# Altium schematic symbol library J 集成块.SchLib: 438 symbols (part 1 of 2)
Pins are listed as number, name and electrical type; pins without a type are passive.

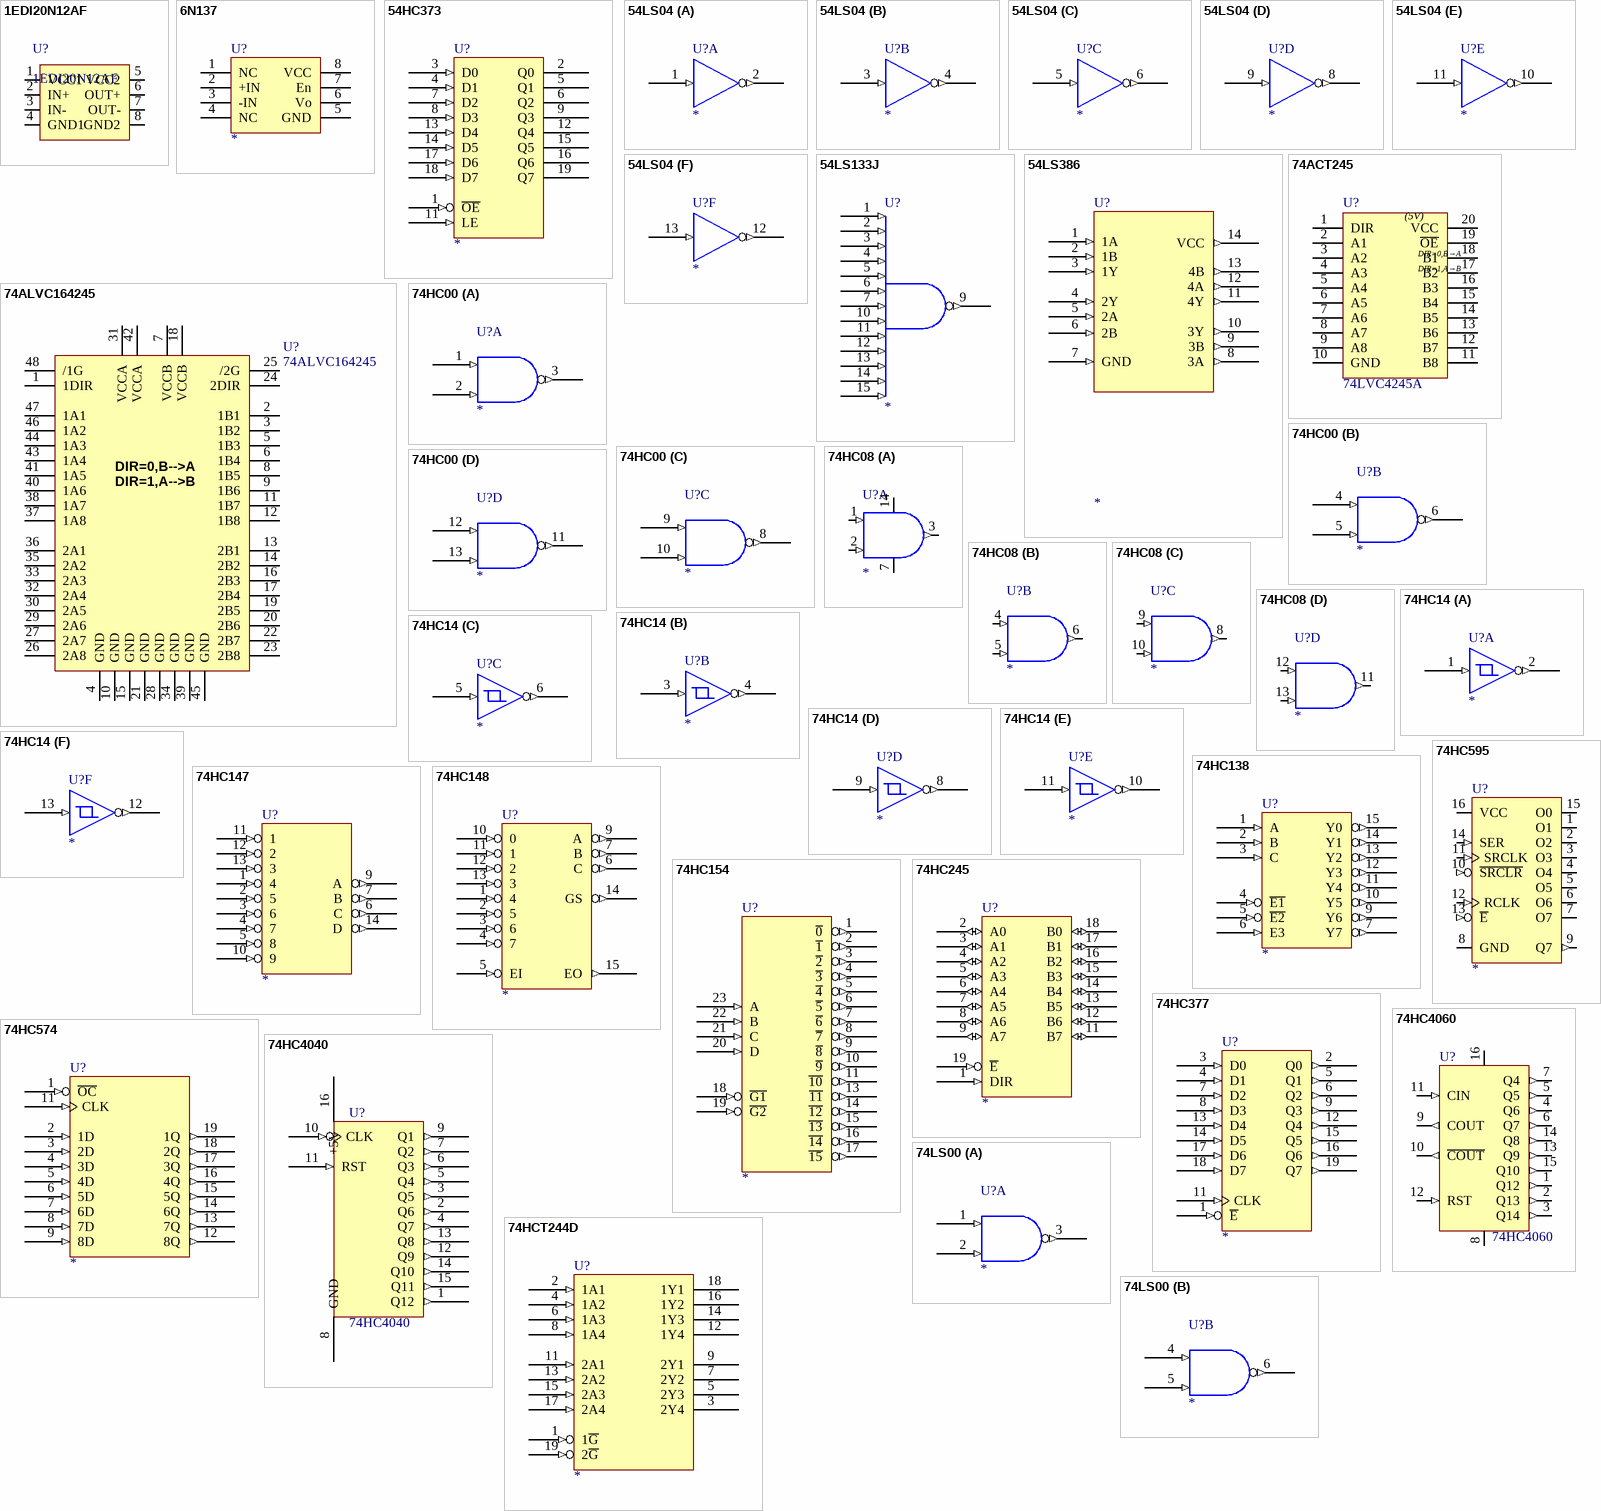
[diagram p0: symbols 1EDI20N12AF to 74LS00]

## 1EDI20N12AF
designator U?
pins: 1 VCC1, 2 IN+, 3 IN-, 4 GND1, 5 VCC2, 6 OUT+, 7 OUT-, 8 GND2

## 6N137
designator U?
高速光耦
pins: 1 NC, 2 +IN, 3 -IN, 4 NC, 5 GND, 6 Vo, 7 En, 8 VCC

## 54HC373
designator U?
pins: 1 ~{OE} (in), 2 Q0 (hiz), 3 D0 (in), 4 D1 (in), 5 Q1 (hiz), 6 Q2 (hiz), 7 D2 (in), 8 D3 (in), 9 Q3 (hiz), 10 GND (power) hidden to GND, 11 LE (in), 12 Q4 (hiz), 13 D4 (in), 14 D5 (in), 15 Q5 (hiz), 16 Q6 (hiz), 17 D6 (in), 18 D7 (in), 19 Q7 (hiz), 20 VCC (power) hidden to VCC

## 54LS04
designator U?
part A pins: 1 (in), 2 (out), 7 GND (power) hidden to GND, 14 VCC (power) hidden to VCC
part B pins: 3 (in), 4 (out), 7 GND (power) hidden to GND, 14 VCC (power) hidden to VCC
part C pins: 5 (in), 6 (out), 7 GND (power) hidden to GND, 14 VCC (power) hidden to VCC
part D pins: 7 GND (power) hidden to GND, 8 (out), 9 (in), 14 VCC (power) hidden to VCC
part E pins: 7 GND (power) hidden to GND, 10 (out), 11 (in), 14 VCC (power) hidden to VCC
part F pins: 7 GND (power) hidden to GND, 12 (out), 13 (in), 14 VCC (power) hidden to VCC

## 54LS133J
designator U?
pins: 1 (in), 2 (in), 3 (in), 4 (in), 5 (in), 6 (in), 7 (in), 8 GND (power) hidden to GND, 9 (out), 10 (in), 11 (in), 12 (in), 13 (in), 14 (in), 15 (in), 16 VCC (power) hidden to VCC

## 54LS386
designator U?
pins: 1 1A (in), 2 1B (in), 3 1Y (in), 4 2Y (in), 5 2A (in), 6 2B (in), 7 GND (in), 8 3A (out), 9 3B (out), 10 GND (power) hidden to GND, 10 3Y (out), 11 4Y (out), 12 4A (out), 13 4B (out), 14 VCC (out), 20 VCC (power) hidden to VCC

## 74ACT245
designator U?, comment 74LVC4245A
5V 三态
pins: 1 DIR, 2 A1, 3 A2, 4 A3, 5 A4, 6 A5, 7 A6, 8 A7, 9 A8, 10 GND, 11 B8, 12 B7, 13 B6, 14 B5, 15 B4, 16 B3, 17 B2, 18 B1, 19 ~{OE}, 20 VCC
text: (5V); DIR=0,B→A; DIR=1,A→B

## 74ALVC164245
designator U?
pins: 1 1DIR, 2 1B1, 3 1B2, 4 GND, 5 1B3, 6 1B4, 7 VCCB, 8 1B5, 9 1B6, 10 GND, 11 1B7, 12 1B8, 13 2B1, 14 2B2, 15 GND, 16 2B3, 17 2B4, 18 VCCB, 19 2B5, 20 2B6, 21 GND, 22 2B7, 23 2B8, 24 2DIR, 25 /2G, 26 2A8, 27 2A7, 28 GND, 29 2A6, 30 2A5, 31 VCCA, 32 2A4, 33 2A3, 34 GND, 35 2A2, 36 2A1, 37 1A8, 38 1A7, 39 GND, 40 1A6, 41 1A5, 42 VCCA, 43 1A4, 44 1A3, 45 GND, 46 1A2, 47 1A1, 48 /1G
text: DIR=0,B-->A; DIR=1,A-->B

## 74HC00
designator U?
part A pins: 1 (in), 2 (in), 3 (out), 7 GND (power) hidden to GND, 14 VCC (power) hidden to VCC
part B pins: 4 (in), 5 (in), 6 (out), 7 GND (power) hidden to GND, 14 VCC (power) hidden to VCC
part C pins: 7 GND (power) hidden to GND, 8 (out), 9 (in), 10 (in), 14 VCC (power) hidden to VCC
part D pins: 7 GND (power) hidden to GND, 11 (out), 12 (in), 13 (in), 14 VCC (power) hidden to VCC

## 74HC08
designator U?
part A pins: 1 (in), 2 (in), 3 (out), 7 GND (power), 14 VCC (power)
part B pins: 4 (in), 5 (in), 6 (out), 7 GND (power) hidden to GND, 14 VCC (power) hidden to VCC
part C pins: 7 GND (power) hidden to GND, 8 (out), 9 (in), 10 (in), 14 VCC (power) hidden to VCC
part D pins: 7 GND (power) hidden to GND, 11 (out), 12 (in), 13 (in), 14 VCC (power) hidden to VCC

## 74HC14
designator U?
part A pins: 1 (in), 2 (out), 7 GND (power) hidden to GND, 14 VCC (power) hidden to VCC
part B pins: 3 (in), 4 (out), 7 GND (power) hidden to GND, 14 VCC (power) hidden to VCC
part C pins: 5 (in), 6 (out), 7 GND (power) hidden to GND, 14 VCC (power) hidden to VCC
part D pins: 7 GND (power) hidden to GND, 8 (out), 9 (in), 14 VCC (power) hidden to VCC
part E pins: 7 GND (power) hidden to GND, 10 (out), 11 (in), 14 VCC (power) hidden to VCC
part F pins: 7 GND (power) hidden to GND, 12 (out), 13 (in), 14 VCC (power) hidden to VCC

## 74HC138
designator U?
pins: 1 A (in), 2 B (in), 3 C (in), 4 ~{E1} (in), 5 ~{E2} (in), 6 E3 (in), 7 Y7 (out), 8 GND (power) hidden to GND, 9 Y6 (out), 10 Y5 (out), 11 Y4 (out), 12 Y3 (out), 13 Y2 (out), 14 Y1 (out), 15 Y0 (out), 16 VCC (power) hidden to VCC

## 74HC147
designator U?
pins: 1 4 (in), 2 5 (in), 3 6 (in), 4 7 (in), 5 8 (in), 6 C (out), 7 B (out), 8 GND (power) hidden to GND, 9 A (out), 10 9 (in), 11 1 (in), 12 2 (in), 13 3 (in), 14 D (out), 16 VCC (power) hidden to VCC

## 74HC148
designator U?
pins: 1 4 (in), 2 5 (in), 3 6 (in), 4 7 (in), 5 EI (in), 6 C (out), 7 B (out), 8 GND (power) hidden to GND, 9 A (out), 10 0 (in), 11 1 (in), 12 2 (in), 13 3 (in), 14 GS (out), 15 EO (out), 16 VCC (power) hidden to VCC

## 74HC154
designator U?
pins: 1 ~{0} (out), 2 ~{1} (out), 3 ~{2} (out), 4 ~{3} (out), 5 ~{4} (out), 6 ~{5} (out), 7 ~{6} (out), 8 ~{7} (out), 9 ~{8} (out), 10 ~{9} (out), 11 ~{10} (out), 12 GND (power) hidden to GND, 13 ~{11} (out), 14 ~{12} (out), 15 ~{13} (out), 16 ~{14} (out), 17 ~{15} (out), 18 ~{G1} (in), 19 ~{G2} (in), 20 D (in), 21 C (in), 22 B (in), 23 A (in), 24 VCC (power) hidden to VCC

## 74HC245
designator U?
pins: 1 DIR (in), 2 A0 (io), 3 A1 (io), 4 A2 (io), 5 A3 (io), 6 A4 (io), 7 A5 (io), 8 A6 (io), 9 A7 (io), 10 GND (power) hidden to GND, 11 B7 (io), 12 B6 (io), 13 B5 (io), 14 B4 (io), 15 B3 (io), 16 B2 (io), 17 B1 (io), 18 B0 (io), 19 ~{E} (in), 20 VCC (power) hidden to VCC

## 74HC377
designator U?
pins: 1 ~{E} (in), 2 Q0 (out), 3 D0 (in), 4 D1 (in), 5 Q1 (out), 6 Q2 (out), 7 D2 (in), 8 D3 (in), 9 Q3 (out), 11 GND (power) hidden to GND, 11 CLK (in), 12 Q4 (out), 13 D4 (in), 14 D5 (in), 15 Q5 (out), 16 Q6 (out), 17 D6 (in), 18 D7 (in), 19 Q7 (out), 20 VCC (power) hidden to VCC

## 74HC574
designator U?
pins: 1 ~{OC} (in), 2 1D (in), 3 2D (in), 4 3D (in), 5 4D (in), 6 5D (in), 7 6D (in), 8 7D (in), 9 8D (in), 10 GND (power) hidden to GND, 11 CLK (in), 12 8Q (out), 13 7Q (out), 14 6Q (out), 15 5Q (out), 16 4Q (out), 17 3Q (out), 18 2Q (out), 19 1Q (out), 20 VCC (power) hidden to VCC

## 74HC595
designator U?
pins: 1 O1 (hiz), 2 O2 (hiz), 3 O3 (hiz), 4 O4 (hiz), 5 O5 (hiz), 6 O6 (hiz), 7 O7 (hiz), 8 GND (power) hidden to GND, 8 GND, 9 Q7 (out), 10 ~{SRCLR} (in), 11 SRCLK (in), 12 RCLK (in), 13 ~{E} (in), 14 SER (in), 15 O0 (hiz), 16 VCC (power) hidden to VCC, 16 VCC (power)

## 74HC4040
designator U?
pins: 1 Q12 (out), 2 Q6 (out), 3 Q5 (out), 4 Q7 (out), 5 Q4 (out), 6 Q3 (out), 7 Q2 (out), 8 GND (power), 9 Q1 (out), 10 CLK (in), 11 RST (in), 12 Q9 (out), 13 Q8 (out), 14 Q10 (out), 15 Q11 (out), 16 +5V (power)

## 74HC4060
designator U?
pins: 1 Q12 (out), 2 Q13 (out), 3 Q14 (out), 4 Q6 (out), 5 Q5 (out), 6 Q7 (out), 7 Q4 (out), 8 GND (power), 9 COUT (out), 10 ~{COUT} (out), 11 CIN (in), 12 RST (in), 13 Q9 (out), 14 Q8 (out), 15 Q10 (out), 16 +5V (power)

## 74HCT244D
designator U?
pins: 1 1~{G} (in), 2 1A1 (in), 3 2Y4 (hiz), 4 1A2 (in), 5 2Y3 (hiz), 6 1A3 (in), 7 2Y2 (hiz), 8 1A4 (in), 9 2Y1 (hiz), 10 GND (power) hidden to GND, 11 2A1 (in), 12 1Y4 (hiz), 13 2A2 (in), 14 1Y3 (hiz), 15 2A3 (in), 16 1Y2 (hiz), 17 2A4 (in), 18 1Y1 (hiz), 19 2~{G} (in), 20 VCC (power) hidden to VCC

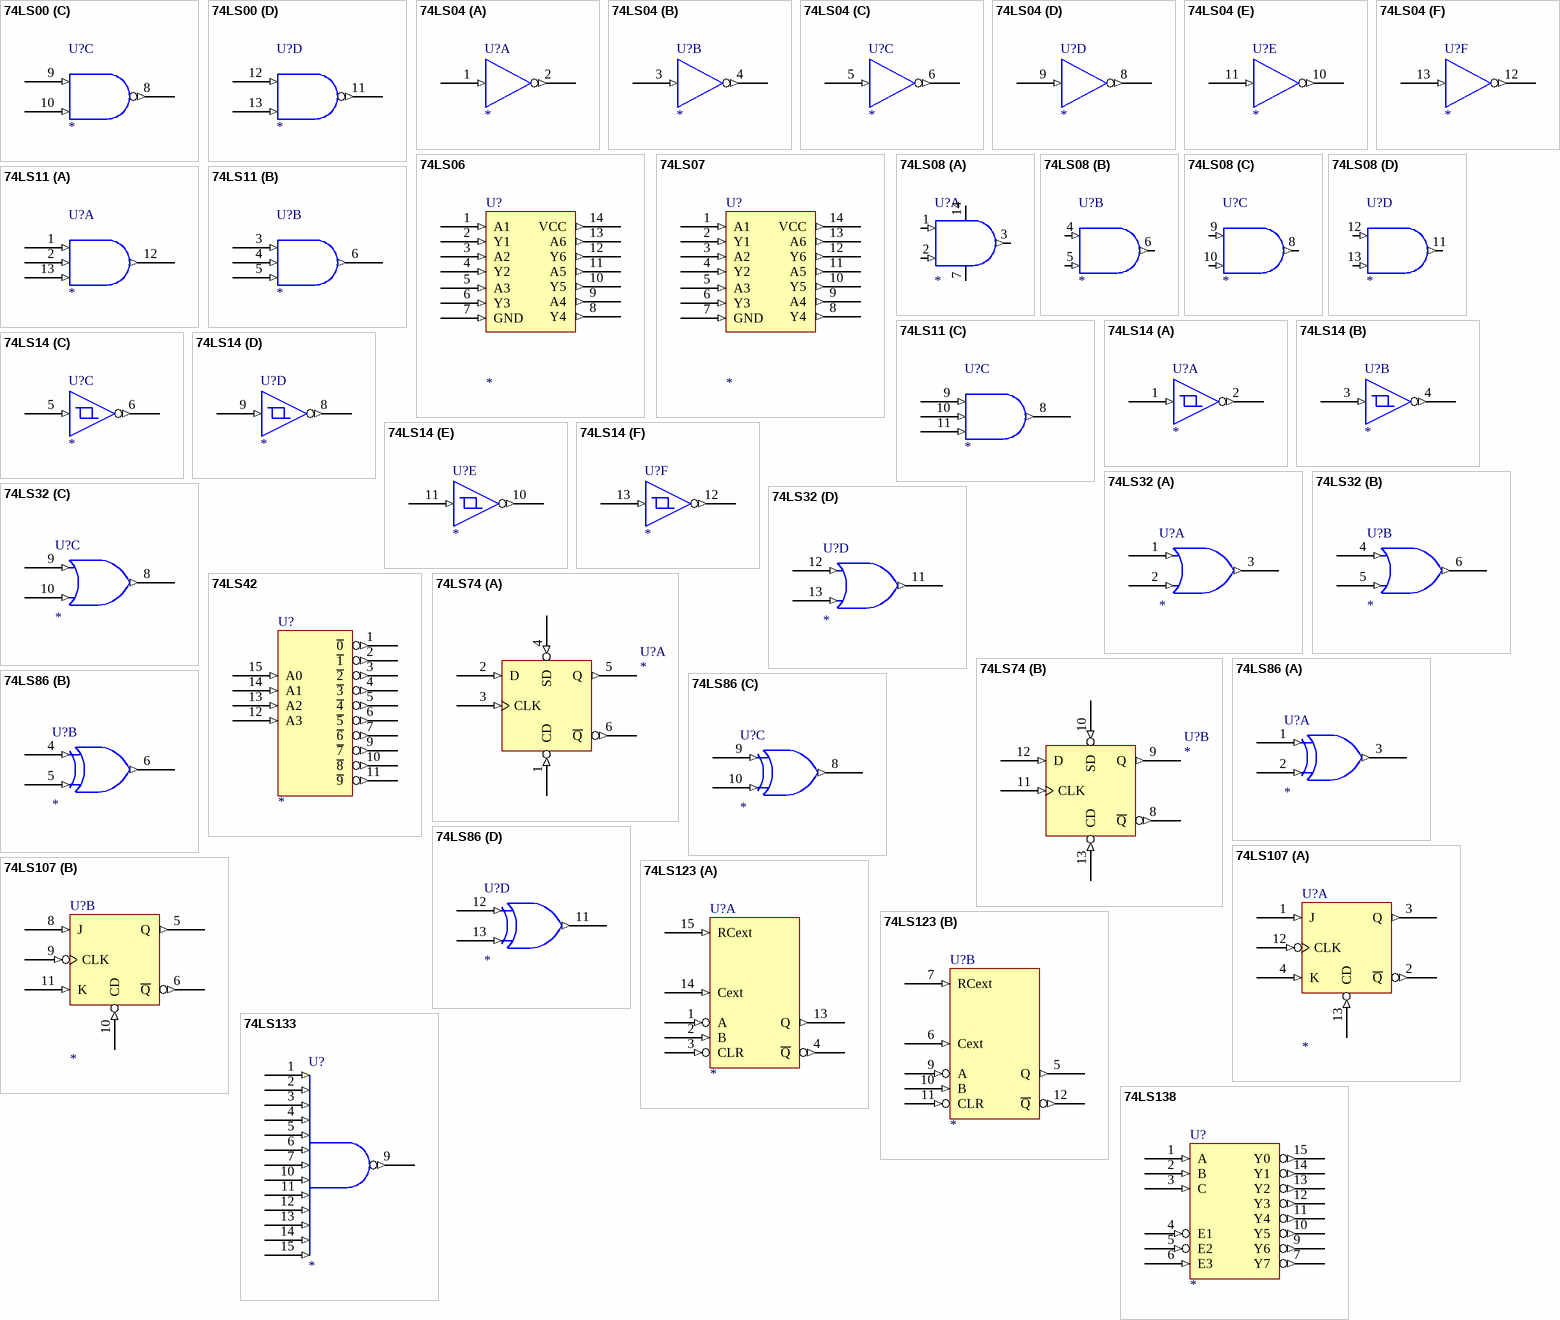
[diagram p1: symbols 74LS00 to 74LS138]

## 74LS00
designator U?
part A pins: 1 (in), 2 (in), 3 (out), 7 GND (power) hidden to GND, 14 VCC (power) hidden to VCC
part B pins: 4 (in), 5 (in), 6 (out), 7 GND (power) hidden to GND, 14 VCC (power) hidden to VCC
part C pins: 7 GND (power) hidden to GND, 8 (out), 9 (in), 10 (in), 14 VCC (power) hidden to VCC
part D pins: 7 GND (power) hidden to GND, 11 (out), 12 (in), 13 (in), 14 VCC (power) hidden to VCC

## 74LS04
designator U?
part A pins: 1 (in), 2 (out), 7 GND (power) hidden to GND, 14 VCC (power) hidden to VCC
part B pins: 3 (in), 4 (out), 7 GND (power) hidden to GND, 14 VCC (power) hidden to VCC
part C pins: 5 (in), 6 (out), 7 GND (power) hidden to GND, 14 VCC (power) hidden to VCC
part D pins: 7 GND (power) hidden to GND, 8 (out), 9 (in), 14 VCC (power) hidden to VCC
part E pins: 7 GND (power) hidden to GND, 10 (out), 11 (in), 14 VCC (power) hidden to VCC
part F pins: 7 GND (power) hidden to GND, 12 (out), 13 (in), 14 VCC (power) hidden to VCC

## 74LS06
designator U?
pins: 1 A1 (in), 2 Y1 (in), 3 A2 (in), 4 Y2 (in), 5 A3 (in), 6 Y3 (in), 7 GND (power) hidden to GND, 7 GND (in), 8 Y4 (out), 9 A4 (out), 10 Y5 (out), 11 A5 (out), 12 Y6 (out), 13 A6 (out), 14 VCC (power) hidden to VCC, 14 VCC (out)

## 74LS07
designator U?
pins: 1 A1 (in), 2 Y1 (in), 3 A2 (in), 4 Y2 (in), 5 A3 (in), 6 Y3 (in), 7 GND (power) hidden to GND, 7 GND (in), 8 Y4 (out), 9 A4 (out), 10 Y5 (out), 11 A5 (out), 12 Y6 (out), 13 A6 (out), 14 VCC (power) hidden to VCC, 14 VCC (out)

## 74LS08
designator U?
part A pins: 1 (in), 2 (in), 3 (out), 7 GND (power), 14 VCC (power)
part B pins: 4 (in), 5 (in), 6 (out), 7 GND (power) hidden to GND, 14 VCC (power) hidden to VCC
part C pins: 7 GND (power) hidden to GND, 8 (out), 9 (in), 10 (in), 14 VCC (power) hidden to VCC
part D pins: 7 GND (power) hidden to GND, 11 (out), 12 (in), 13 (in), 14 VCC (power) hidden to VCC

## 74LS11
designator U?
part A pins: 1 (in), 2 (in), 7 GND (power) hidden to GND, 12 (out), 13 (in), 14 VCC (power) hidden to VCC
part B pins: 3 (in), 4 (in), 5 (in), 6 (out), 7 GND (power) hidden to GND, 14 VCC (power) hidden to VCC
part C pins: 7 GND (power) hidden to GND, 8 (out), 9 (in), 10 (in), 11 (in), 14 VCC (power) hidden to VCC

## 74LS14
designator U?
part A pins: 1 (in), 2 (out), 7 GND (power) hidden to GND, 14 VCC (power) hidden to VCC
part B pins: 3 (in), 4 (out), 7 GND (power) hidden to GND, 14 VCC (power) hidden to VCC
part C pins: 5 (in), 6 (out), 7 GND (power) hidden to GND, 14 VCC (power) hidden to VCC
part D pins: 7 GND (power) hidden to GND, 8 (out), 9 (in), 14 VCC (power) hidden to VCC
part E pins: 7 GND (power) hidden to GND, 10 (out), 11 (in), 14 VCC (power) hidden to VCC
part F pins: 7 GND (power) hidden to GND, 12 (out), 13 (in), 14 VCC (power) hidden to VCC

## 74LS32
designator U?
part A pins: 1 (in), 2 (in), 3 (out), 7 GND (power) hidden to GND, 14 VCC (power) hidden to VCC
part B pins: 4 (in), 5 (in), 6 (out), 7 GND (power) hidden to GND, 14 VCC (power) hidden to VCC
part C pins: 7 GND (power) hidden to GND, 8 (out), 9 (in), 10 (in), 14 VCC (power) hidden to VCC
part D pins: 7 GND (power) hidden to GND, 11 (out), 12 (in), 13 (in), 14 VCC (power) hidden to VCC

## 74LS42
designator U?
pins: 1 ~{0} (out), 2 ~{1} (out), 3 ~{2} (out), 4 ~{3} (out), 5 ~{4} (out), 6 ~{5} (out), 7 ~{6} (out), 8 GND (power) hidden to GND, 9 ~{7} (out), 10 ~{8} (out), 11 ~{9} (out), 12 A3 (in), 13 A2 (in), 14 A1 (in), 15 A0 (in), 16 VCC (power) hidden to VCC

## 74LS74
designator U?
part A pins: 1 CD (in), 2 D (in), 3 CLK (in), 4 SD (in), 5 Q (out), 6 ~{Q} (out), 7 GND (power) hidden to GND, 14 VCC (power) hidden to VCC
part B pins: 7 GND (power) hidden to GND, 8 ~{Q} (out), 9 Q (out), 10 SD (in), 11 CLK (in), 12 D (in), 13 CD (in), 14 VCC (power) hidden to VCC

## 74LS86
designator U?
part A pins: 1 (in), 2 (in), 3 (out), 7 GND (power) hidden to GND, 14 VCC (power) hidden to VCC
part B pins: 4 (in), 5 (in), 6 (out), 7 GND (power) hidden to GND, 14 VCC (power) hidden to VCC
part C pins: 7 GND (power) hidden to GND, 8 (out), 9 (in), 10 (in), 14 VCC (power) hidden to VCC
part D pins: 7 GND (power) hidden to GND, 11 (out), 12 (in), 13 (in), 14 VCC (power) hidden to VCC

## 74LS107
designator U?
part A pins: 1 J (in), 2 ~{Q} (out), 3 Q (out), 4 K (in), 7 GND (power) hidden to GND, 12 CLK (in), 13 CD (in), 14 VCC (power) hidden to VCC
part B pins: 5 Q (out), 6 ~{Q} (out), 7 GND (power) hidden to GND, 8 J (in), 9 CLK (in), 10 CD (in), 11 K (in), 14 VCC (power) hidden to VCC

## 74LS123
designator U?
part A pins: 1 A (in), 2 B (in), 3 CLR (in), 4 ~{Q} (out), 8 GND (power) hidden to GND, 13 Q (out), 14 Cext (in), 15 RCext (in), 16 VCC (power) hidden to VCC
part B pins: 5 Q (out), 6 Cext (in), 7 RCext (in), 8 GND (power) hidden to GND, 9 A (in), 10 B (in), 11 CLR (in), 12 ~{Q} (out), 16 VCC (power) hidden to VCC

## 74LS133
designator U?
pins: 1 (in), 2 (in), 3 (in), 4 (in), 5 (in), 6 (in), 7 (in), 8 GND (power) hidden to GND, 9 (out), 10 (in), 11 (in), 12 (in), 13 (in), 14 (in), 15 (in), 16 VCC (power) hidden to VCC

## 74LS138
designator U?
pins: 1 A (in), 2 B (in), 3 C (in), 4 E1 (in), 5 E2 (in), 6 E3 (in), 7 Y7 (out), 8 GND (power) hidden to GND, 9 Y6 (out), 10 Y5 (out), 11 Y4 (out), 12 Y3 (out), 13 Y2 (out), 14 Y1 (out), 15 Y0 (out), 16 VCC (power) hidden to VCC

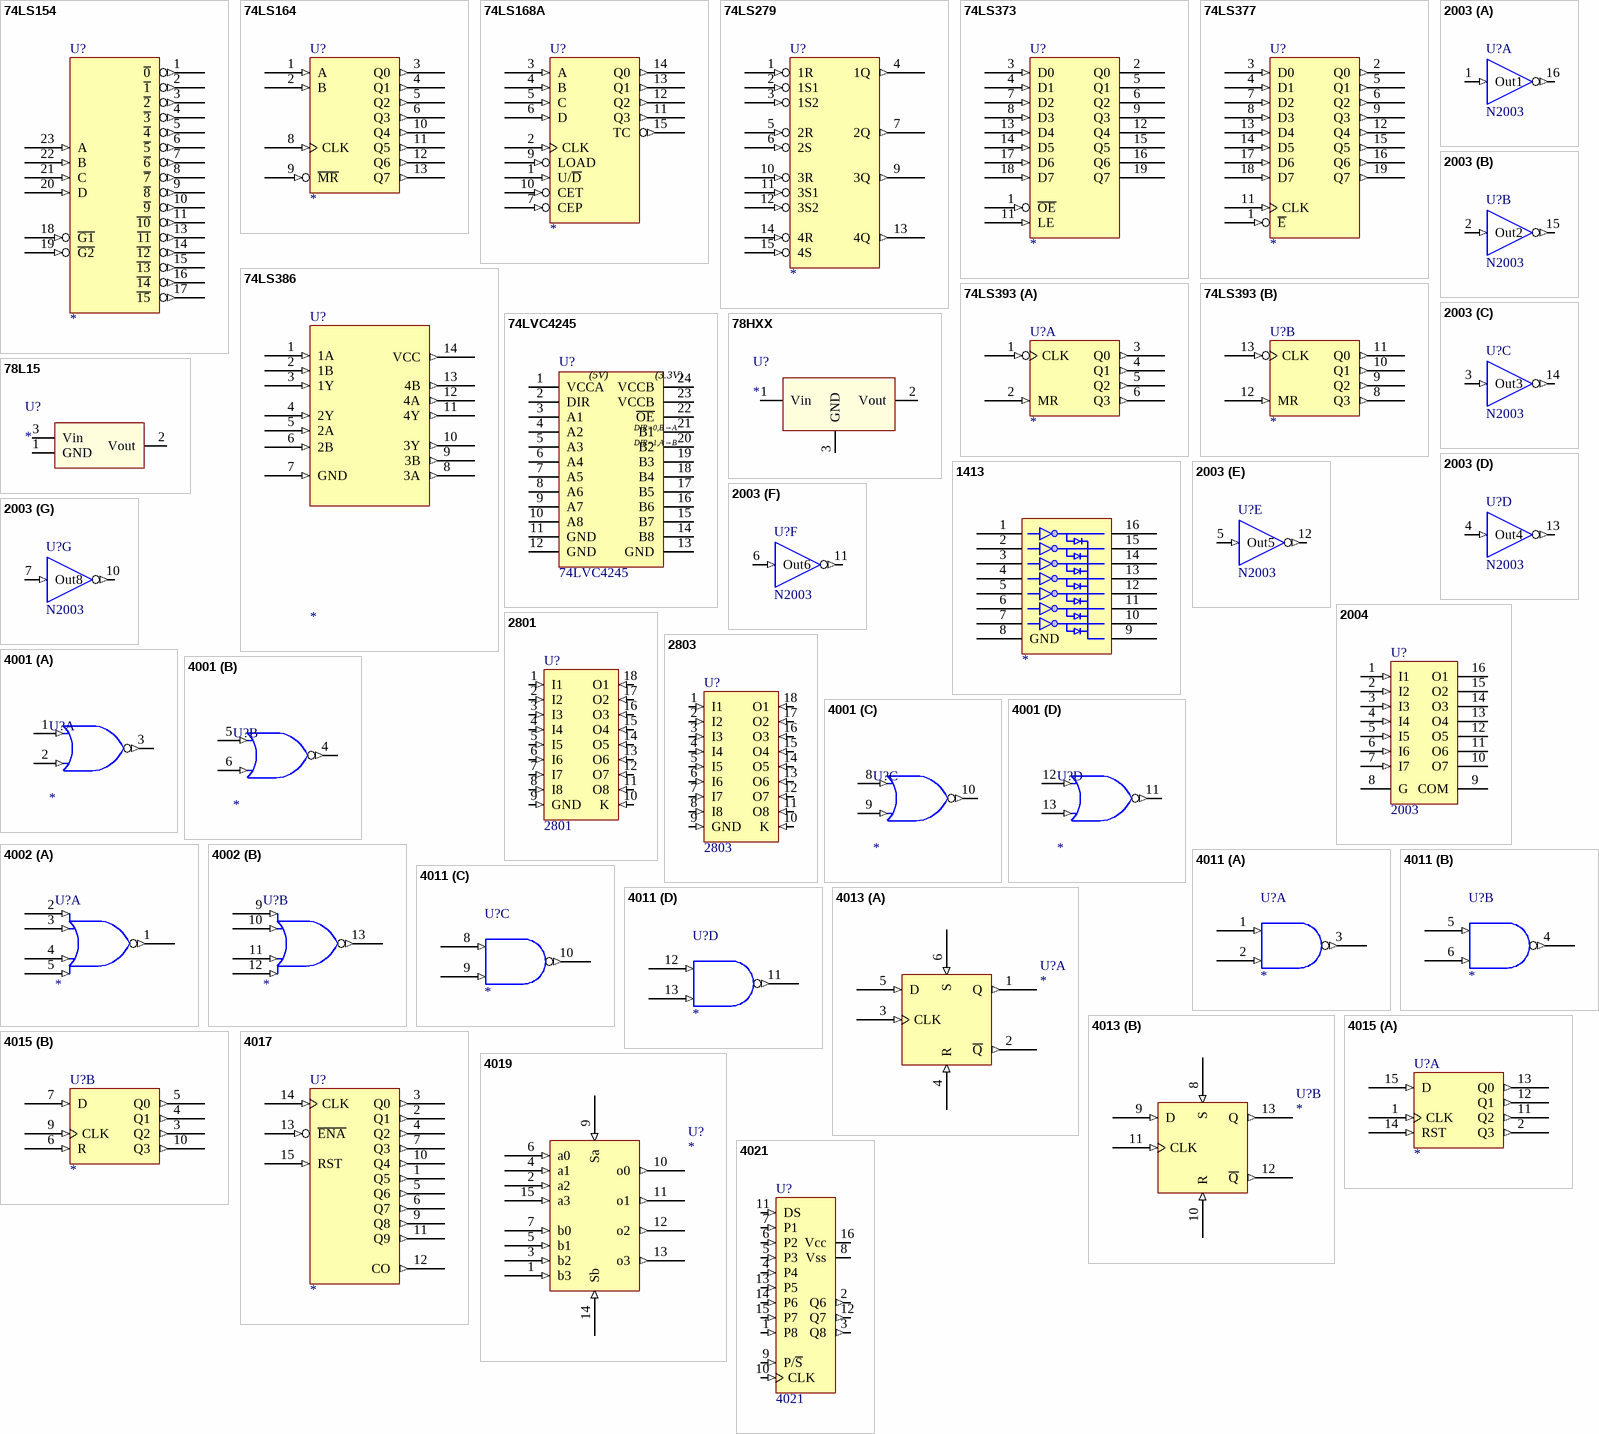
[diagram p2: symbols 74LS154 to 4021]

## 74LS154
designator U?
pins: 1 ~{0} (out), 2 ~{1} (out), 3 ~{2} (out), 4 ~{3} (out), 5 ~{4} (out), 6 ~{5} (out), 7 ~{6} (out), 8 ~{7} (out), 9 ~{8} (out), 10 ~{9} (out), 11 ~{10} (out), 12 GND (power) hidden to GND, 13 ~{11} (out), 14 ~{12} (out), 15 ~{13} (out), 16 ~{14} (out), 17 ~{15} (out), 18 ~{G1} (in), 19 ~{G2} (in), 20 D (in), 21 C (in), 22 B (in), 23 A (in), 24 VCC (power) hidden to VCC

## 74LS164
designator U?
pins: 1 A (in), 2 B (in), 3 Q0 (out), 4 Q1 (out), 5 Q2 (out), 6 Q3 (out), 7 GND (power) hidden to GND, 8 CLK (in), 9 ~{MR} (in), 10 Q4 (out), 11 Q5 (out), 12 Q6 (out), 13 Q7 (out), 14 VCC (power) hidden to VCC

## 74LS168A
designator U?
Synchronous 4-Bit Up/Down Decade Counter
pins: 1 U/~{D} (in), 2 CLK (in), 3 A (in), 4 B (in), 5 C (in), 6 D (in), 7 CEP (in), 8 GND (power) hidden to GND, 9 LOAD (in), 10 CET (in), 11 Q3 (out), 12 Q2 (out), 13 Q1 (out), 14 Q0 (out), 15 TC (out), 16 VCC (power) hidden to VCC

## 74LS279
designator U?
pins: 1 1R (in), 2 1S1 (in), 3 1S2 (in), 4 1Q (out), 5 2R (in), 6 2S (in), 7 2Q (out), 8 GND (power) hidden to GND, 9 3Q (out), 10 3R (in), 11 3S1 (in), 12 3S2 (in), 13 4Q (out), 14 4R (in), 15 4S (in), 16 VCC (power) hidden to VCC

## 74LS373
designator U?
pins: 1 ~{OE} (in), 2 Q0 (hiz), 3 D0 (in), 4 D1 (in), 5 Q1 (hiz), 6 Q2 (hiz), 7 D2 (in), 8 D3 (in), 9 Q3 (hiz), 10 GND (power) hidden to GND, 11 LE (in), 12 Q4 (hiz), 13 D4 (in), 14 D5 (in), 15 Q5 (hiz), 16 Q6 (hiz), 17 D6 (in), 18 D7 (in), 19 Q7 (hiz), 20 VCC (power) hidden to VCC

## 74LS377
designator U?
pins: 1 ~{E} (in), 2 Q0 (out), 3 D0 (in), 4 D1 (in), 5 Q1 (out), 6 Q2 (out), 7 D2 (in), 8 D3 (in), 9 Q3 (out), 11 GND (power) hidden to GND, 11 CLK (in), 12 Q4 (out), 13 D4 (in), 14 D5 (in), 15 Q5 (out), 16 Q6 (out), 17 D6 (in), 18 D7 (in), 19 Q7 (out), 21 VCC (power) hidden to VCC

## 74LS386
designator U?
pins: 1 1A (in), 2 1B (in), 3 1Y (in), 4 2Y (in), 5 2A (in), 6 2B (in), 7 GND (in), 8 3A (out), 9 3B (out), 10 GND (power) hidden to GND, 10 3Y (out), 11 4Y (out), 12 4A (out), 13 4B (out), 14 VCC (out), 20 VCC (power) hidden to VCC

## 74LS393
designator U?
part A pins: 1 CLK (in), 2 MR (in), 3 Q0 (out), 4 Q1 (out), 5 Q2 (out), 6 Q3 (out), 7 GND (power) hidden to GND, 14 VCC (power) hidden to VCC
part B pins: 7 GND (power) hidden to GND, 8 Q3 (out), 9 Q2 (out), 10 Q1 (out), 11 Q0 (out), 12 MR (in), 13 CLK (in), 14 VCC (power) hidden to VCC

## 74LVC4245
designator U?
3.3V-5V 三态
pins: 1 VCCA, 2 DIR, 3 A1, 4 A2, 5 A3, 6 A4, 7 A5, 8 A6, 9 A7, 10 A8, 11 GND, 12 GND, 13 GND, 14 B8, 15 B7, 16 B6, 17 B5, 18 B4, 19 B3, 20 B2, 21 B1, 22 ~{OE}, 23 VCCB, 24 VCCB
text: (5V); (3.3V); DIR=0,B→A; DIR=1,A→B

## 78HXX
designator U?
电源管理器件
pins: 1 Vin, 2 Vout, 3 GND

## 78L15
designator U?
电源管理器件
pins: 1 GND, 2 Vout, 3 Vin

## 1413
designator ?
IC-驱动集成电器
pins: 1, 2, 3, 4, 5, 6, 7, 8 GND, 9, 10, 11, 12, 13, 14, 15, 16

## 2003
designator U?, comment N2003
集成块
part A pins: 1 (in), 8 GND hidden to GND, 9 COM hidden, 16 Out1 (out)
part B pins: 2 (in), 15 Out2 (out)
part C pins: 3 (in), 14 Out3 (out)
part D pins: 4 (in), 13 Out4 (out)
part E pins: 5 (in), 12 Out5 (out)
part F pins: 6 (in), 11 Out6 (out)
part G pins: 7 (in), 10 Out8 (out)

## 2004
designator U?, comment 2003
集成块; Published: 8-Jun-2000; LatestRevisionDate: 17-Jul-2002; LatestRevisionNote: Re-released for DXP Platform.; DatasheetDocument: Sep-1998; PackageDocument: Apr-1996; PackageReference: DIP16; Publisher: Altium Limited
pins: 1 I1 (in), 2 I2 (in), 3 I3 (in), 4 I4 (in), 5 I5 (in), 6 I6 (in), 7 I7 (in), 8 G (power), 9 COM, 10 O7 (oc), 11 O6 (oc), 12 O5 (oc), 13 O4 (oc), 14 O3 (oc), 15 O2 (oc), 16 O1 (oc)

## 2801
designator U?
集成块
pins: 1 I1 (in), 2 I2 (in), 3 I3 (in), 4 I4 (in), 5 I5 (in), 6 I6 (in), 7 I7 (in), 8 I8 (in), 9 GND (in), 10 K (in), 11 O8 (in), 12 O7 (in), 13 O6 (in), 14 O5 (in), 15 O4 (in), 16 O3 (in), 17 O2 (in), 18 O1 (in)

## 2803
designator U?
集成块
pins: 1 I1 (in), 2 I2 (in), 3 I3 (in), 4 I4 (in), 5 I5 (in), 6 I6 (in), 7 I7 (in), 8 I8 (in), 9 GND (in), 10 K (in), 11 O8 (in), 12 O7 (in), 13 O6 (in), 14 O5 (in), 15 O4 (in), 16 O3 (in), 17 O2 (in), 18 O1 (in)

## 4001
designator U?
part A pins: 1 (in), 2 (in), 3 (out), 7 GND (power) hidden to GND, 14 VCC (power) hidden to VCC
part B pins: 4 (out), 5 (in), 6 (in), 7 GND (power) hidden to GND, 14 VCC (power) hidden to VCC
part C pins: 7 GND (power) hidden to GND, 8 (in), 9 (in), 10 (out), 14 VCC (power) hidden to VCC
part D pins: 7 GND (power) hidden to GND, 11 (out), 12 (in), 13 (in), 14 VCC (power) hidden to VCC

## 4002
designator U?
part A pins: 1 (out), 2 (in), 3 (in), 4 (in), 5 (in), 7 GND (power) hidden to GND, 14 VCC (power) hidden to VCC
part B pins: 7 GND (power) hidden to GND, 9 (in), 10 (in), 11 (in), 12 (in), 13 (out), 14 VCC (power) hidden to VCC

## 4011
designator U?
part A pins: 1 (in), 2 (in), 3 (out), 7 GND (power) hidden to GND, 14 VCC (power) hidden to VCC
part B pins: 4 (out), 5 (in), 6 (in), 7 GND (power) hidden to GND, 14 VCC (power) hidden to VCC
part C pins: 7 GND (power) hidden to GND, 8 (in), 9 (in), 10 (out), 14 VCC (power) hidden to VCC
part D pins: 7 GND (power) hidden to GND, 11 (out), 12 (in), 13 (in), 14 VCC (power) hidden to VCC

## 4013
designator U?
part A pins: 1 Q (out), 2 ~{Q} (out), 3 CLK (in), 4 R (in), 5 D (in), 6 S (in), 7 GND (power) hidden to GND, 14 VCC (power) hidden to VCC
part B pins: 7 GND (power) hidden to GND, 8 S (in), 9 D (in), 10 R (in), 11 CLK (in), 12 ~{Q} (out), 13 Q (out), 14 VCC (power) hidden to VCC

## 4015
designator U?
part A pins: 1 CLK (in), 2 Q3 (out), 8 GND (power) hidden to GND, 11 Q2 (out), 12 Q1 (out), 13 Q0 (out), 14 RST (in), 15 D (in), 16 VCC (power) hidden to VCC
part B pins: 3 Q2 (out), 4 Q1 (out), 5 Q0 (out), 6 R (in), 7 D (in), 8 GND (power) hidden to GND, 9 CLK (in), 10 Q3 (out), 16 VCC (power) hidden to VCC

## 4017
designator U?
pins: 1 Q5 (out), 2 Q1 (out), 3 Q0 (out), 4 Q2 (out), 5 Q6 (out), 6 Q7 (out), 7 Q3 (out), 8 GND (power) hidden to GND, 9 Q8 (out), 10 Q4 (out), 11 Q9 (out), 12 CO (out), 13 ~{ENA} (in), 14 CLK (in), 15 RST (in), 16 VCC (power) hidden to VCC

## 4019
designator U?
pins: 1 b3 (in), 2 a2 (in), 3 b2 (in), 4 a1 (in), 5 b1 (in), 6 a0 (in), 7 b0 (in), 8 GND (power) hidden to GND, 9 Sa (in), 10 o0 (out), 11 o1 (out), 12 o2 (out), 13 o3 (out), 14 Sb (in), 15 a3 (in), 16 VCC (power) hidden to VCC

## 4021
designator U?
pins: 1 P8 (in), 2 Q6 (out), 3 Q8 (out), 4 P4 (in), 5 P3 (in), 6 P2 (in), 7 P1 (in), 8 Vss (power), 9 P/~{S} (in), 10 CLK (in), 11 DS (in), 12 Q7 (out), 13 P5 (in), 14 P6 (in), 15 P7 (in), 16 Vcc (power)

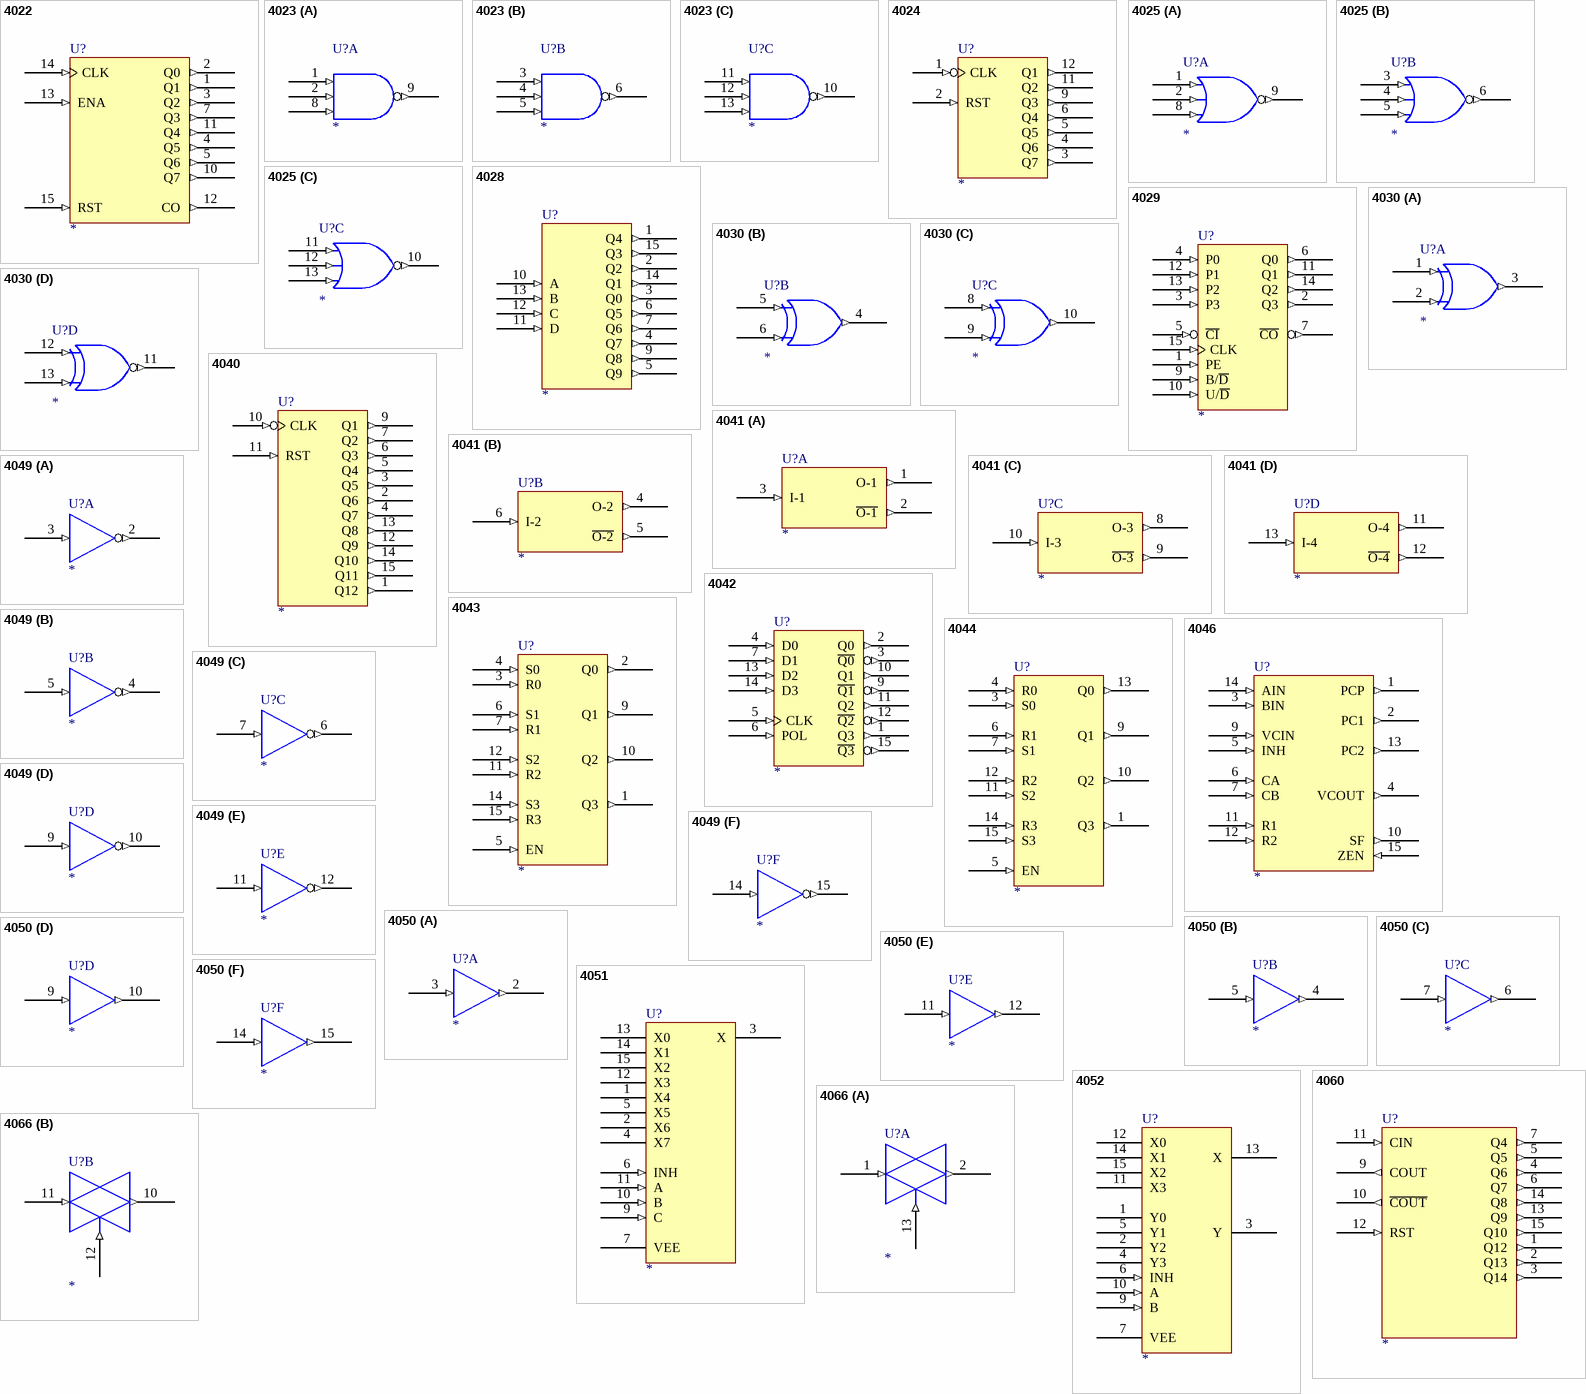
[diagram p3: symbols 4022 to 4066]

## 4022
designator U?
pins: 1 Q1 (out), 2 Q0 (out), 3 Q2 (out), 4 Q5 (out), 5 Q6 (out), 7 Q3 (out), 8 GND (power) hidden to GND, 10 Q7 (out), 11 Q4 (out), 12 CO (out), 13 ENA (in), 14 CLK (in), 15 RST (in), 16 VCC (power) hidden to VCC

## 4023
designator U?
part A pins: 1 (in), 2 (in), 7 GND (power) hidden to GND, 8 (in), 9 (out), 14 VCC (power) hidden to VCC
part B pins: 3 (in), 4 (in), 5 (in), 6 (out), 7 GND (power) hidden to GND, 14 VCC (power) hidden to VCC
part C pins: 7 GND (power) hidden to GND, 10 (out), 11 (in), 12 (in), 13 (in), 14 VCC (power) hidden to VCC

## 4024
designator U?
pins: 1 CLK (in), 2 RST (in), 3 Q7 (out), 4 Q6 (out), 5 Q5 (out), 6 Q4 (out), 7 GND (power) hidden to GND, 9 Q3 (out), 11 Q2 (out), 12 Q1 (out), 14 VCC (power) hidden to VCC

## 4025
designator U?
part A pins: 1 (in), 2 (in), 7 GND (power) hidden to GND, 8 (in), 9 (out), 14 VCC (power) hidden to VCC
part B pins: 3 (in), 4 (in), 5 (in), 6 (out), 7 GND (power) hidden to GND, 14 VCC (power) hidden to VCC
part C pins: 7 GND (power) hidden to GND, 10 (out), 11 (in), 12 (in), 13 (in), 14 VCC (power) hidden to VCC

## 4028
designator U?
pins: 1 Q4 (out), 2 Q2 (out), 3 Q0 (out), 4 Q7 (out), 5 Q9 (out), 6 Q5 (out), 7 Q6 (out), 8 GND (power) hidden to GND, 9 Q8 (out), 10 A (in), 11 D (in), 12 C (in), 13 B (in), 14 Q1 (out), 15 Q3 (out), 16 VCC (power) hidden to VCC

## 4029
designator U?
pins: 1 PE (in), 2 Q3 (out), 3 P3 (in), 4 P0 (in), 5 ~{CI} (in), 6 Q0 (out), 7 ~{CO} (out), 8 GND (power) hidden to GND, 9 B/~{D} (in), 10 U/~{D} (in), 11 Q1 (out), 12 P1 (in), 13 P2 (in), 14 Q2 (out), 15 CLK (in), 16 VCC (power) hidden to VCC

## 4030
designator U?
part A pins: 1 (in), 2 (in), 3 (out), 7 GND (power) hidden to GND, 14 VCC (power) hidden to VCC
part B pins: 4 (out), 5 (in), 6 (in), 7 GND (power) hidden to GND, 14 VCC (power) hidden to VCC
part C pins: 7 GND (power) hidden to GND, 8 (in), 9 (in), 10 (out), 14 VCC (power) hidden to VCC
part D pins: 7 GND (power) hidden to GND, 11 (out), 12 (in), 13 (in), 14 VCC (power) hidden to VCC

## 4040
designator U?
pins: 1 Q12 (out), 2 Q6 (out), 3 Q5 (out), 4 Q7 (out), 5 Q4 (out), 6 Q3 (out), 7 Q2 (out), 8 GND (power) hidden to GND, 9 Q1 (out), 10 CLK (in), 11 RST (in), 12 Q9 (out), 13 Q8 (out), 14 Q10 (out), 15 Q11 (out), 16 VCC (power) hidden to VCC

## 4041
designator U?
part A pins: 1 O-1 (out), 2 ~{O-1} (out), 3 I-1 (in), 7 GND (power) hidden to GND, 14 VCC (power) hidden to VCC
part B pins: 4 O-2 (out), 5 ~{O-2} (out), 6 I-2 (in), 7 GND (power) hidden to GND, 14 VCC (power) hidden to VCC
part C pins: 7 GND (power) hidden to GND, 8 O-3 (out), 9 ~{O-3} (out), 10 I-3 (in), 14 VCC (power) hidden to VCC
part D pins: 7 GND (power) hidden to GND, 11 O-4 (out), 12 ~{O-4} (out), 13 I-4 (in), 14 VCC (power) hidden to VCC

## 4042
designator U?
pins: 1 Q3 (out), 2 Q0 (out), 3 ~{Q0} (out), 4 D0 (in), 5 CLK (in), 6 POL (in), 7 D1 (in), 8 GND (power) hidden to GND, 9 ~{Q1} (out), 10 Q1 (out), 11 Q2 (out), 12 ~{Q2} (out), 13 D2 (in), 14 D3 (in), 15 ~{Q3} (out), 16 VCC (power) hidden to VCC

## 4043
designator U?
pins: 1 Q3 (out), 2 Q0 (out), 3 R0 (in), 4 S0 (in), 5 EN (in), 6 S1 (in), 7 R1 (in), 8 GND (power) hidden to GND, 9 Q1 (out), 10 Q2 (out), 11 R2 (in), 12 S2 (in), 14 S3 (in), 15 R3 (in), 16 VCC (power) hidden to VCC

## 4044
designator U?
pins: 1 Q3 (out), 3 S0 (in), 4 R0 (in), 5 EN (in), 6 R1 (in), 7 S1 (in), 8 GND (power) hidden to GND, 9 Q1 (out), 10 Q2 (out), 11 S2 (in), 12 R2 (in), 13 Q0 (out), 14 R3 (in), 15 S3 (in), 16 VCC (power) hidden to VCC

## 4046
designator U?
pins: 1 PCP (out), 2 PC1 (out), 3 BIN (in), 4 VCOUT (out), 5 INH (in), 6 CA (in), 7 CB (in), 8 GND (power) hidden to GND, 9 VCIN (in), 10 SF (out), 11 R1 (in), 12 R2 (in), 13 PC2 (out), 14 AIN (in), 15 ZEN (in), 16 VCC (power) hidden to VCC

## 4049
designator U?
part A pins: 1 VCC (power) hidden to VCC, 2 (out), 3 (in), 8 GND (power) hidden to GND
part B pins: 1 VCC (power) hidden to VCC, 4 (out), 5 (in), 8 GND (power) hidden to GND
part C pins: 1 VCC (power) hidden to VCC, 6 (out), 7 (in), 8 GND (power) hidden to GND
part D pins: 1 VCC (power) hidden to VCC, 8 GND (power) hidden to GND, 9 (in), 10 (out)
part E pins: 1 VCC (power) hidden to VCC, 8 GND (power) hidden to GND, 11 (in), 12 (out)
part F pins: 1 VCC (power) hidden to VCC, 8 GND (power) hidden to GND, 14 (in), 15 (out)

## 4050
designator U?
part A pins: 1 VCC (power) hidden to VCC, 2 (out), 3 (in), 8 GND (power) hidden to GND
part B pins: 1 VCC (power) hidden to VCC, 4 (out), 5 (in), 8 GND (power) hidden to GND
part C pins: 1 VCC (power) hidden to VCC, 6 (out), 7 (in), 8 GND (power) hidden to GND
part D pins: 1 VCC (power) hidden to VCC, 8 GND (power) hidden to GND, 9 (in), 10 (out)
part E pins: 1 VCC (power) hidden to VCC, 8 GND (power) hidden to GND, 11 (in), 12 (out)
part F pins: 1 VCC (power) hidden to VCC, 8 GND (power) hidden to GND, 14 (in), 15 (out)

## 4051
designator U?
pins: 1 X4, 2 X6, 3 X, 4 X7, 5 X5, 6 INH (in), 7 VEE, 8 GND (power) hidden to GND, 9 C (in), 10 B (in), 11 A (in), 12 X3, 13 X0, 14 X1, 15 X2, 16 VCC (power) hidden to VCC

## 4052
designator U?
pins: 1 Y0, 2 Y2, 3 Y, 4 Y3, 5 Y1, 6 INH (in), 7 VEE, 8 GND (power) hidden to GND, 9 B (in), 10 A (in), 11 X3, 12 X0, 13 X, 14 X1, 15 X2, 16 VCC (power) hidden to VCC

## 4060
designator U?
pins: 1 Q12 (out), 2 Q13 (out), 3 Q14 (out), 4 Q6 (out), 5 Q5 (out), 6 Q7 (out), 7 Q4 (out), 8 GND (power) hidden to GND, 9 COUT (out), 10 ~{COUT} (out), 11 CIN (in), 12 RST (in), 13 Q9 (out), 14 Q8 (out), 15 Q10 (out), 16 VCC (power) hidden to VCC

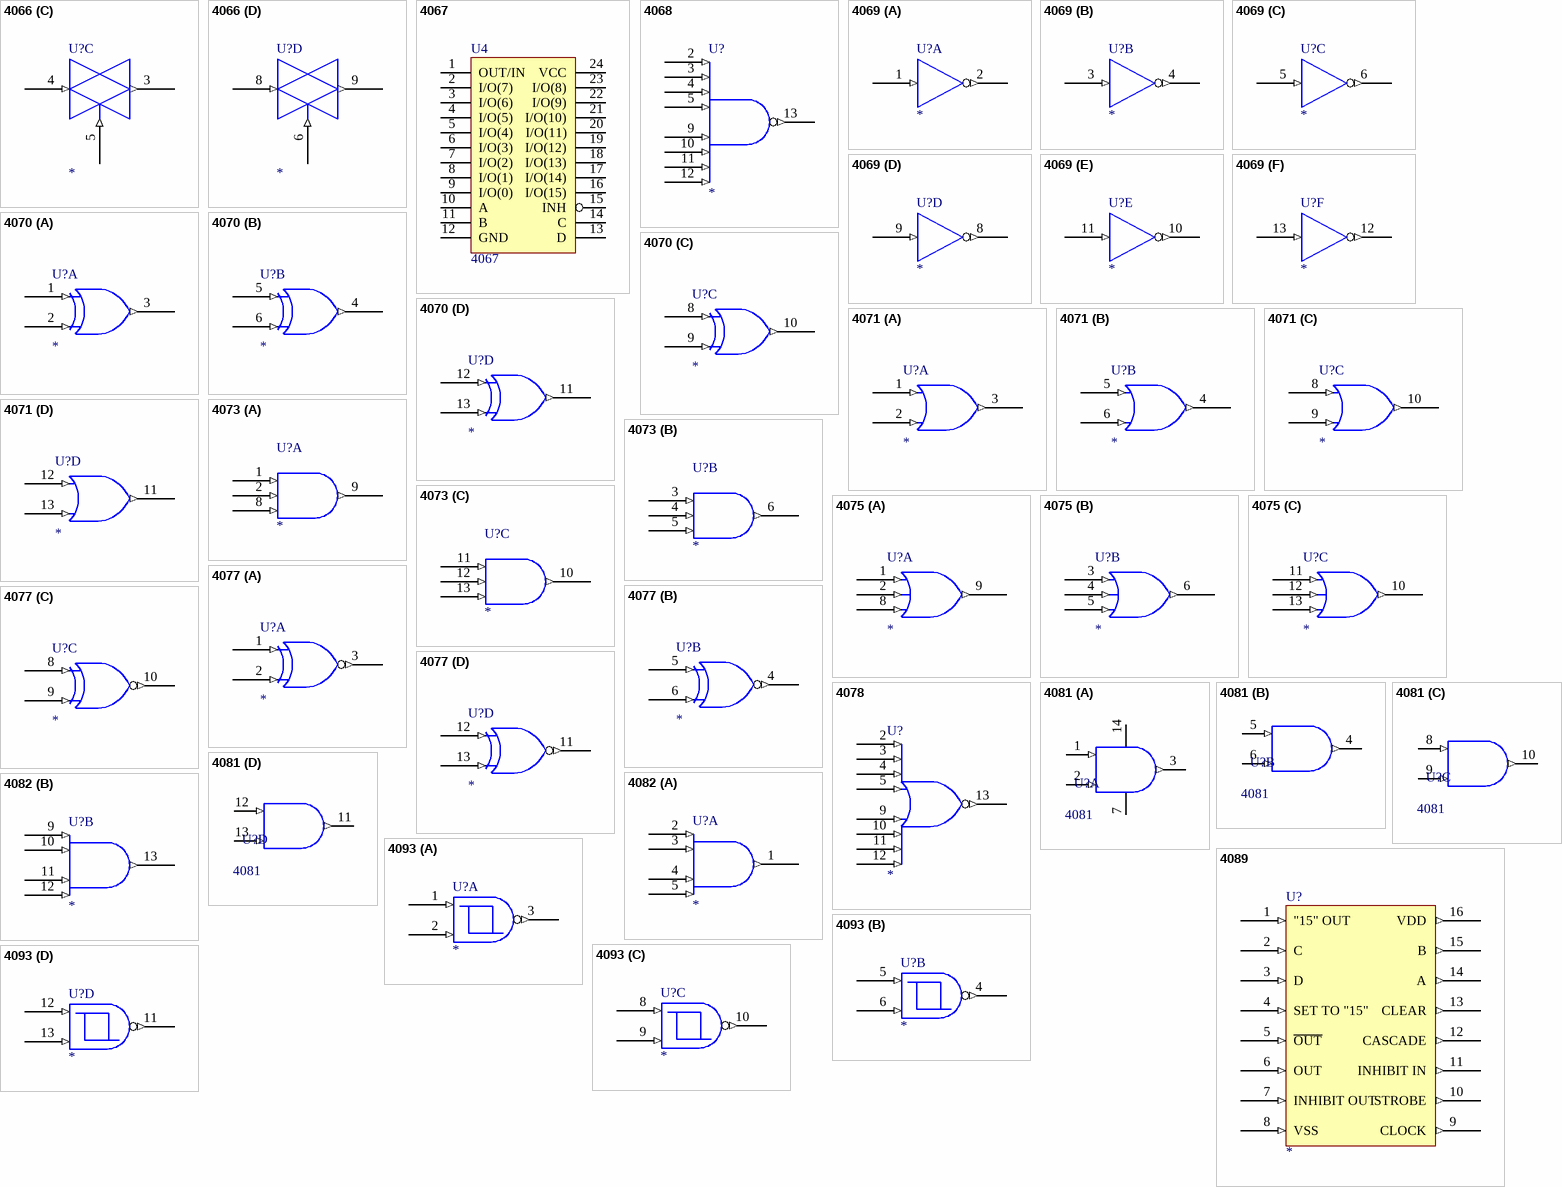
[diagram p4: symbols 4066 to 4093]

## 4066
designator U?
part A pins: 1 (in), 2 (out), 7 GND (power) hidden to GND, 13 (in), 14 VCC (power) hidden to VCC
part B pins: 7 GND (power) hidden to GND, 10 (out), 11 (in), 12 (in), 14 VCC (power) hidden to VCC
part C pins: 3 (out), 4 (in), 5 (in), 7 GND (power) hidden to GND, 14 VCC (power) hidden to VCC
part D pins: 6 (in), 7 GND (power) hidden to GND, 8 (in), 9 (out), 14 VCC (power) hidden to VCC

## 4067
designator U4
pins: 1 OUT/IN, 2 I/O(7), 3 I/O(6), 4 I/O(5), 5 I/O(4), 6 I/O(3), 7 I/O(2), 8 I/O(1), 9 I/O(0), 10 A, 11 B, 12 GND, 13 D, 14 C, 15 INH, 16 I/O(15), 17 I/O(14), 18 I/O(13), 19 I/O(12), 20 I/O(11), 21 I/O(10), 22 I/O(9), 23 I/O(8), 24 VCC

## 4068
designator U?
pins: 2 (in), 3 (in), 4 (in), 5 (in), 7 GND (power) hidden to GND, 9 (in), 10 (in), 11 (in), 12 (in), 13 (out), 14 VCC (power) hidden to VCC

## 4069
designator U?
part A pins: 1 (in), 2 (out), 7 GND (power) hidden to GND, 14 VCC (power) hidden to VCC
part B pins: 3 (in), 4 (out), 7 GND (power) hidden to GND, 14 VCC (power) hidden to VCC
part C pins: 5 (in), 6 (out), 7 GND (power) hidden to GND, 14 VCC (power) hidden to VCC
part D pins: 7 GND (power) hidden to GND, 8 (out), 9 (in), 14 VCC (power) hidden to VCC
part E pins: 7 GND (power) hidden to GND, 10 (out), 11 (in), 14 VCC (power) hidden to VCC
part F pins: 7 GND (power) hidden to GND, 12 (out), 13 (in), 14 VCC (power) hidden to VCC

## 4070
designator U?
part A pins: 1 (in), 2 (in), 3 (out), 7 GND (power) hidden to GND, 14 VCC (power) hidden to VCC
part B pins: 4 (out), 5 (in), 6 (in), 7 GND (power) hidden to GND, 14 VCC (power) hidden to VCC
part C pins: 7 GND (power) hidden to GND, 8 (in), 9 (in), 10 (out), 14 VCC (power) hidden to VCC
part D pins: 7 GND (power) hidden to GND, 11 (out), 12 (in), 13 (in), 14 VCC (power) hidden to VCC

## 4071
designator U?
part A pins: 1 (in), 2 (in), 3 (out), 7 GND (power) hidden to GND, 14 VCC (power) hidden to VCC
part B pins: 4 (out), 5 (in), 6 (in), 7 GND (power) hidden to GND, 14 VCC (power) hidden to VCC
part C pins: 7 GND (power) hidden to GND, 8 (in), 9 (in), 10 (out), 14 VCC (power) hidden to VCC
part D pins: 7 GND (power) hidden to GND, 11 (out), 12 (in), 13 (in), 14 VCC (power) hidden to VCC

## 4073
designator U?
part A pins: 1 (in), 2 (in), 7 GND (power) hidden to GND, 8 (in), 9 (out), 14 VCC (power) hidden to VCC
part B pins: 3 (in), 4 (in), 5 (in), 6 (out), 7 GND (power) hidden to GND, 14 VCC (power) hidden to VCC
part C pins: 7 GND (power) hidden to GND, 10 (out), 11 (in), 12 (in), 13 (in), 14 VCC (power) hidden to VCC

## 4075
designator U?
part A pins: 1 (in), 2 (in), 7 GND (power) hidden to GND, 8 (in), 9 (out), 14 VCC (power) hidden to VCC
part B pins: 3 (in), 4 (in), 5 (in), 6 (out), 7 GND (power) hidden to GND, 14 VCC (power) hidden to VCC
part C pins: 7 GND (power) hidden to GND, 10 (out), 11 (in), 12 (in), 13 (in), 14 VCC (power) hidden to VCC

## 4077
designator U?
part A pins: 1 (in), 2 (in), 3 (out), 7 GND (power) hidden to GND, 14 VCC (power) hidden to VCC
part B pins: 4 (out), 5 (in), 6 (in), 7 GND (power) hidden to GND, 14 VCC (power) hidden to VCC
part C pins: 7 GND (power) hidden to GND, 8 (in), 9 (in), 10 (out), 14 VCC (power) hidden to VCC
part D pins: 7 GND (power) hidden to GND, 11 (out), 12 (in), 13 (in), 14 VCC (power) hidden to VCC

## 4078
designator U?
pins: 2 (in), 3 (in), 4 (in), 5 (in), 7 GND (power) hidden to GND, 9 (in), 10 (in), 11 (in), 12 (in), 13 (out), 14 VCC (power) hidden to VCC

## 4081
designator U?
part A pins: 1 (in), 2 (in), 3 (out), 7 GND (power), 14 VCC (power)
part B pins: 4 (out), 5 (in), 6 (in)
part C pins: 8 (in), 9 (in), 10 (out)
part D pins: 11 (out), 12 (in), 13 (in)

## 4082
designator U?
part A pins: 1 (out), 2 (in), 3 (in), 4 (in), 5 (in), 7 GND (power) hidden to GND, 14 VCC (power) hidden to VCC
part B pins: 7 GND (power) hidden to GND, 9 (in), 10 (in), 11 (in), 12 (in), 13 (out), 14 VCC (power) hidden to VCC

## 4089
designator U?
pins: 1 "15" OUT (in), 2 C (in), 3 D (in), 4 SET TO "15" (in), 5 ~{OUT} (in), 6 OUT (in), 7 GND (power) hidden to GND, 7 INHIBIT OUT (in), 8 VSS (in), 9 CLOCK (out), 10 STROBE (out), 11 INHIBIT IN (out), 12 CASCADE (out), 13 CLEAR (out), 14 VCC (power) hidden to VCC, 14 A (out), 15 B (out), 16 VDD (out)

## 4093
designator U?
part A pins: 1 (in), 2 (in), 3 (out), 7 GND (power) hidden to GND, 14 VCC (power) hidden to VCC
part B pins: 4 (out), 5 (in), 6 (in), 7 GND (power) hidden to GND, 14 VCC (power) hidden to VCC
part C pins: 7 GND (power) hidden to GND, 8 (in), 9 (in), 10 (out), 14 VCC (power) hidden to VCC
part D pins: 7 GND (power) hidden to GND, 11 (out), 12 (in), 13 (in), 14 VCC (power) hidden to VCC

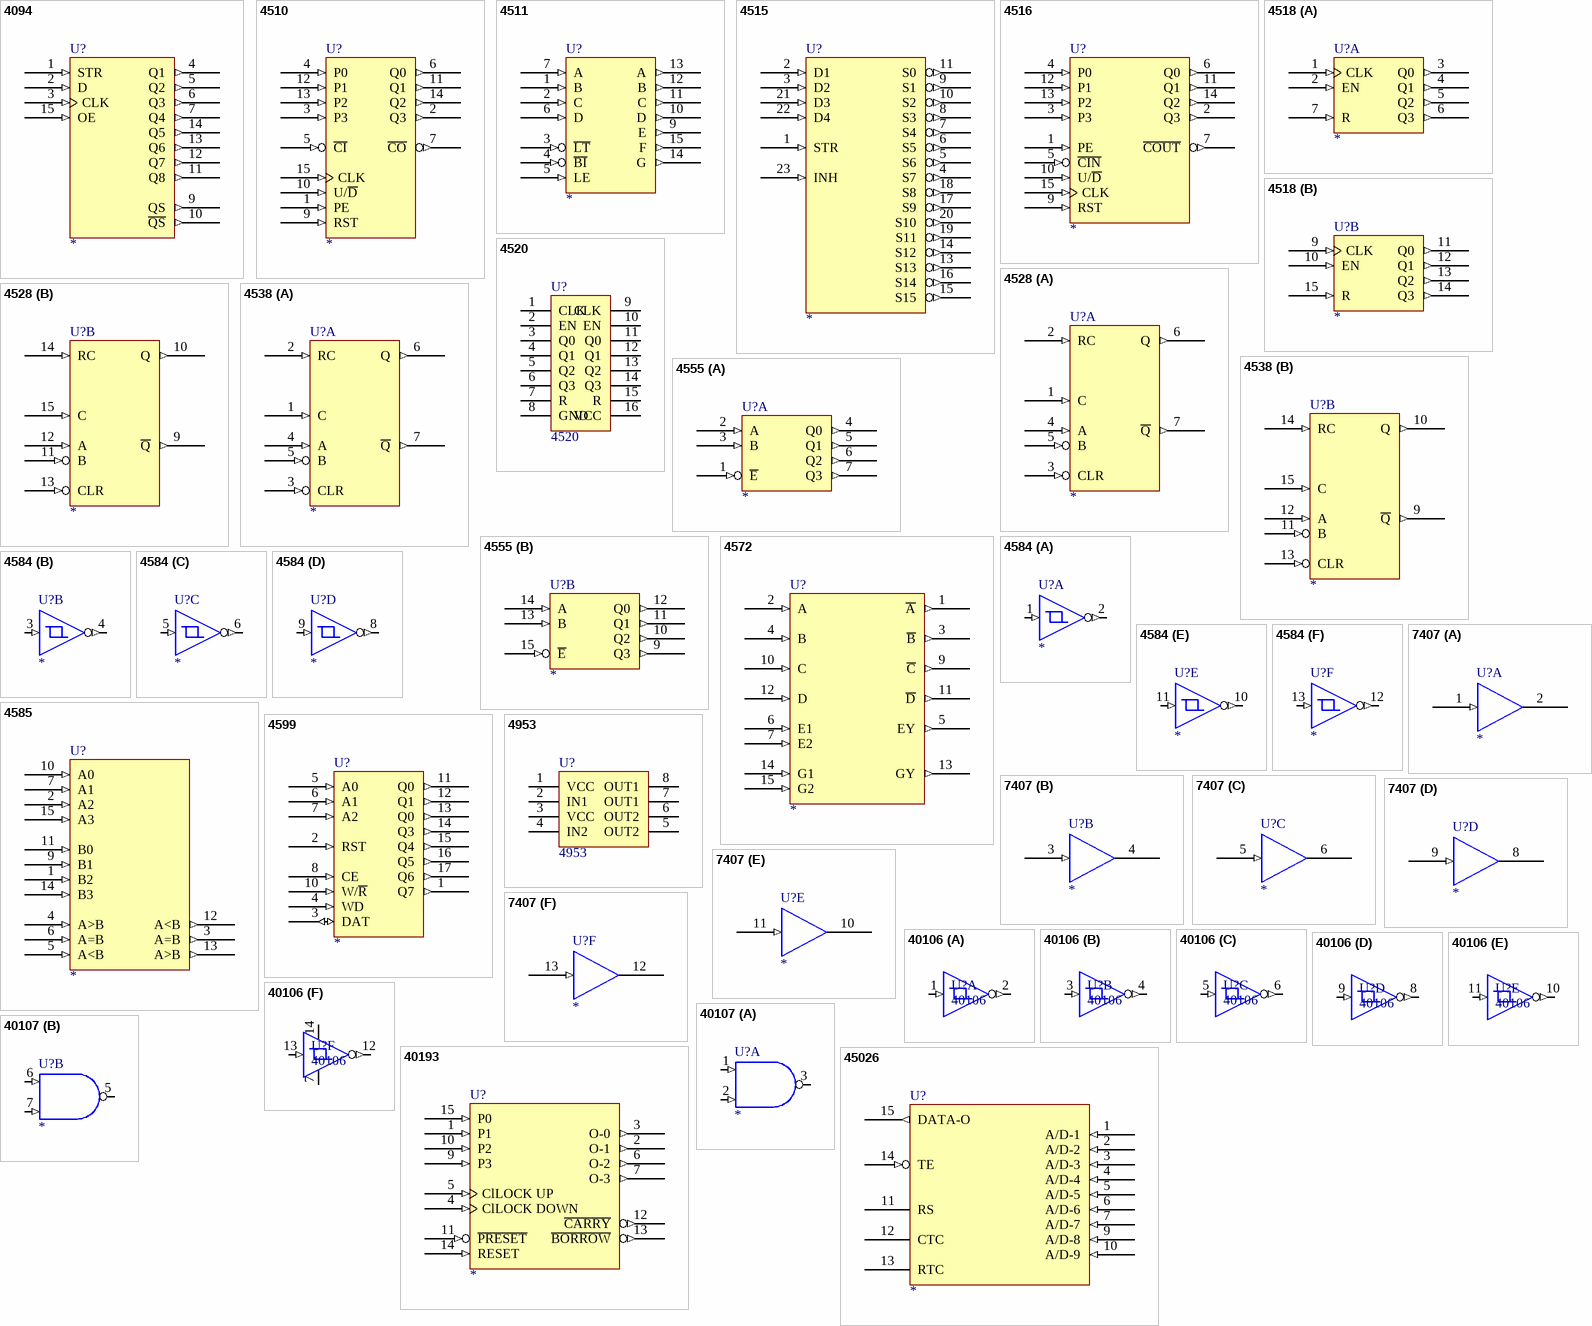
[diagram p5: symbols 4094 to 45026]

## 4094
designator U?
pins: 1 STR (in), 2 D (in), 3 CLK (in), 4 Q1 (out), 5 Q2 (out), 6 Q3 (out), 7 Q4 (out), 8 GND (power) hidden to GND, 9 QS (out), 10 ~{QS} (out), 11 Q8 (out), 12 Q7 (out), 13 Q6 (out), 14 Q5 (out), 15 OE (in), 16 VCC (power) hidden to VCC

## 4510
designator U?
pins: 1 PE (in), 2 Q3 (out), 3 P3 (in), 4 P0 (in), 5 ~{CI} (in), 6 Q0 (out), 7 ~{CO} (out), 8 GND (power) hidden to GND, 9 RST (in), 10 U/~{D} (in), 11 Q1 (out), 12 P1 (in), 13 P2 (in), 14 Q2 (out), 15 CLK (in), 16 VCC (power) hidden to VCC

## 4511
designator U?
pins: 1 B (in), 2 C (in), 3 ~{LT} (in), 4 ~{BI} (in), 5 LE (in), 6 D (in), 7 A (in), 8 GND (power) hidden to GND, 9 E (out), 10 D (out), 11 C (out), 12 B (out), 13 A (out), 14 G (out), 15 F (out), 16 VCC (power) hidden to VCC

## 4515
designator U?
pins: 1 STR (in), 2 D1 (in), 3 D2 (in), 4 S7 (out), 5 S6 (out), 6 S5 (out), 7 S4 (out), 8 S3 (out), 9 S1 (out), 10 S2 (out), 11 S0 (out), 12 GND (power) hidden to GND, 13 S13 (out), 14 S12 (out), 15 S15 (out), 16 S14 (out), 17 S9 (out), 18 S8 (out), 19 S11 (out), 20 S10 (out), 21 D3 (in), 22 D4 (in), 23 INH (in), 24 VCC (power) hidden to VCC

## 4516
designator U?
pins: 1 PE (in), 2 Q3 (out), 3 P3 (in), 4 P0 (in), 5 ~{CIN} (in), 6 Q0 (out), 7 ~{COUT} (out), 8 GND (power) hidden to GND, 9 RST (in), 10 U/~{D} (in), 11 Q1 (out), 12 P1 (in), 13 P2 (in), 14 Q2 (out), 15 CLK (in), 16 VCC (power) hidden to VCC

## 4518
designator U?
part A pins: 1 CLK (in), 2 EN (in), 3 Q0 (out), 4 Q1 (out), 5 Q2 (out), 6 Q3 (out), 7 R (in), 8 GND (power) hidden to GND, 16 VCC (power) hidden to VCC
part B pins: 8 GND (power) hidden to GND, 9 CLK (in), 10 EN (in), 11 Q0 (out), 12 Q1 (out), 13 Q2 (out), 14 Q3 (out), 15 R (in), 16 VCC (power) hidden to VCC

## 4520
designator U?
pins: 1 CLK, 2 EN, 3 Q0, 4 Q1, 5 Q2, 6 Q3, 7 R, 8 GND, 9 CLK, 10 EN, 11 Q0, 12 Q1, 13 Q2, 14 Q3, 15 R, 16 VCC

## 4528
designator U?
part A pins: 1 C (in), 2 RC (in), 3 CLR (in), 4 A (in), 5 B (in), 6 Q (out), 7 ~{Q} (out), 8 GND (power) hidden to GND, 16 VCC (power) hidden to VCC
part B pins: 8 GND (power) hidden to GND, 9 ~{Q} (out), 10 Q (out), 11 B (in), 12 A (in), 13 CLR (in), 14 RC (in), 15 C (in), 16 VCC (power) hidden to VCC

## 4538
designator U?
part A pins: 1 C (in), 2 RC (in), 3 CLR (in), 4 A (in), 5 B (in), 6 Q (out), 7 ~{Q} (out), 8 GND (power) hidden to GND, 16 VCC (power) hidden to VCC
part B pins: 8 GND (power) hidden to GND, 9 ~{Q} (out), 10 Q (out), 11 B (in), 12 A (in), 13 CLR (in), 14 RC (in), 15 C (in), 16 VCC (power) hidden to VCC

## 4555
designator U?
part A pins: 1 ~{E} (in), 2 A (in), 3 B (in), 4 Q0 (out), 5 Q1 (out), 6 Q2 (out), 7 Q3 (out), 8 GND (power) hidden to GND, 16 VCC (power) hidden to VCC
part B pins: 8 GND (power) hidden to GND, 9 Q3 (out), 10 Q2 (out), 11 Q1 (out), 12 Q0 (out), 13 B (in), 14 A (in), 15 ~{E} (in), 16 VCC (power) hidden to VCC

## 4572
designator U?
pins: 1 ~{A} (out), 2 A (in), 3 ~{B} (out), 4 B (in), 5 EY (out), 6 E1 (in), 7 E2 (in), 8 GND (power) hidden to GND, 9 ~{C} (out), 10 C (in), 11 ~{D} (out), 12 D (in), 13 GY (out), 14 G1 (in), 15 G2 (in), 16 VCC (power) hidden to VCC

## 4584
designator U?
part A pins: 1 (in), 2 (out), 7 GND (power) hidden to GND, 14 VCC (power) hidden to VCC
part B pins: 3 (in), 4 (out), 7 GND (power) hidden to GND, 14 VCC (power) hidden to VCC
part C pins: 5 (in), 6 (out), 7 GND (power) hidden to GND, 14 VCC (power) hidden to VCC
part D pins: 7 GND (power) hidden to GND, 8 (out), 9 (in), 14 VCC (power) hidden to VCC
part E pins: 7 GND (power) hidden to GND, 10 (out), 11 (in), 14 VCC (power) hidden to VCC
part F pins: 7 GND (power) hidden to GND, 12 (out), 13 (in), 14 VCC (power) hidden to VCC

## 4585
designator U?
pins: 1 B2 (in), 2 A2 (in), 3 A=B (out), 4 A>B (in), 5 A<B (in), 6 A=B (in), 7 A1 (in), 8 GND (power) hidden to GND, 9 B1 (in), 10 A0 (in), 11 B0 (in), 12 A<B (out), 13 A>B (out), 14 B3 (in), 15 A3 (in), 16 VCC (power) hidden to VCC

## 4599
designator U?
pins: 1 Q7 (out), 2 RST (in), 3 DAT (io), 4 WD (in), 5 A0 (in), 6 A1 (in), 7 A2 (in), 8 CE (in), 9 GND (power) hidden to GND, 10 W/~{R} (in), 11 Q0 (out), 12 Q1 (out), 13 Q0 (out), 14 Q3 (out), 15 Q4 (out), 16 Q5 (out), 17 Q6 (out), 18 VCC (power) hidden to VCC

## 4953
designator U?
驱动模块
pins: 1 VCC, 2 IN1, 3 VCC, 4 IN2, 5 OUT2, 6 OUT2, 7 OUT1, 8 OUT1

## 7407
designator U?
part A pins: 1 (in), 2 (oc), 7 GND (power) hidden to GND, 14 VCC (power) hidden to VCC
part B pins: 3 (in), 4 (oc), 7 GND (power) hidden to GND, 14 VCC (power) hidden to VCC
part C pins: 5 (in), 6 (oc), 7 GND (power) hidden to GND, 14 VCC (power) hidden to VCC
part D pins: 7 GND (power) hidden to GND, 8 (oc), 9 (in), 14 VCC (power) hidden to VCC
part E pins: 7 GND (power) hidden to GND, 10 (oc), 11 (in), 14 VCC (power) hidden to VCC
part F pins: 7 GND (power) hidden to GND, 12 (oc), 13 (in), 14 VCC (power) hidden to VCC

## 40106
designator U?
part A pins: 1 (in), 2 (out)
part B pins: 3 (in), 4 (out)
part C pins: 5 (in), 6 (out)
part D pins: 8 (out), 9 (in)
part E pins: 10 (out), 11 (in)
part F pins: 7 GND (power), 12 (out), 13 (in), 14 VCC (power)

## 40107
designator U?
part A pins: 1 (in), 2 (in), 3 (oc), 4 GND (power) hidden to GND, 8 VCC (power) hidden to VCC
part B pins: 4 GND (power) hidden to GND, 5 (oc), 6 (in), 7 (in), 8 VCC (power) hidden to VCC

## 40193
designator U?
pins: 1 P1 (in), 2 O-1 (out), 3 O-0 (out), 4 ClLOCK DOWN (in), 5 ClLOCK UP (in), 6 O-2 (out), 7 O-3 (out), 8 GND (power) hidden to GND, 9 P3 (in), 10 P2 (in), 11 ~{PRESET} (in), 12 ~{CARRY} (out), 13 ~{BORROW} (out), 14 RESET (in), 15 P0 (in), 16 VCC (power) hidden to VCC

## 45026
designator U?
pins: 1 A/D-1 (in), 2 A/D-2 (in), 3 A/D-3 (in), 4 A/D-4 (in), 5 A/D-5 (in), 6 A/D-6 (in), 7 A/D-7 (in), 8 GND (power) hidden to GND, 9 A/D-8 (in), 10 A/D-9 (in), 11 RS, 12 CTC, 13 RTC, 14 TE (in), 15 DATA-O (out), 16 VCC (power) hidden to VCC

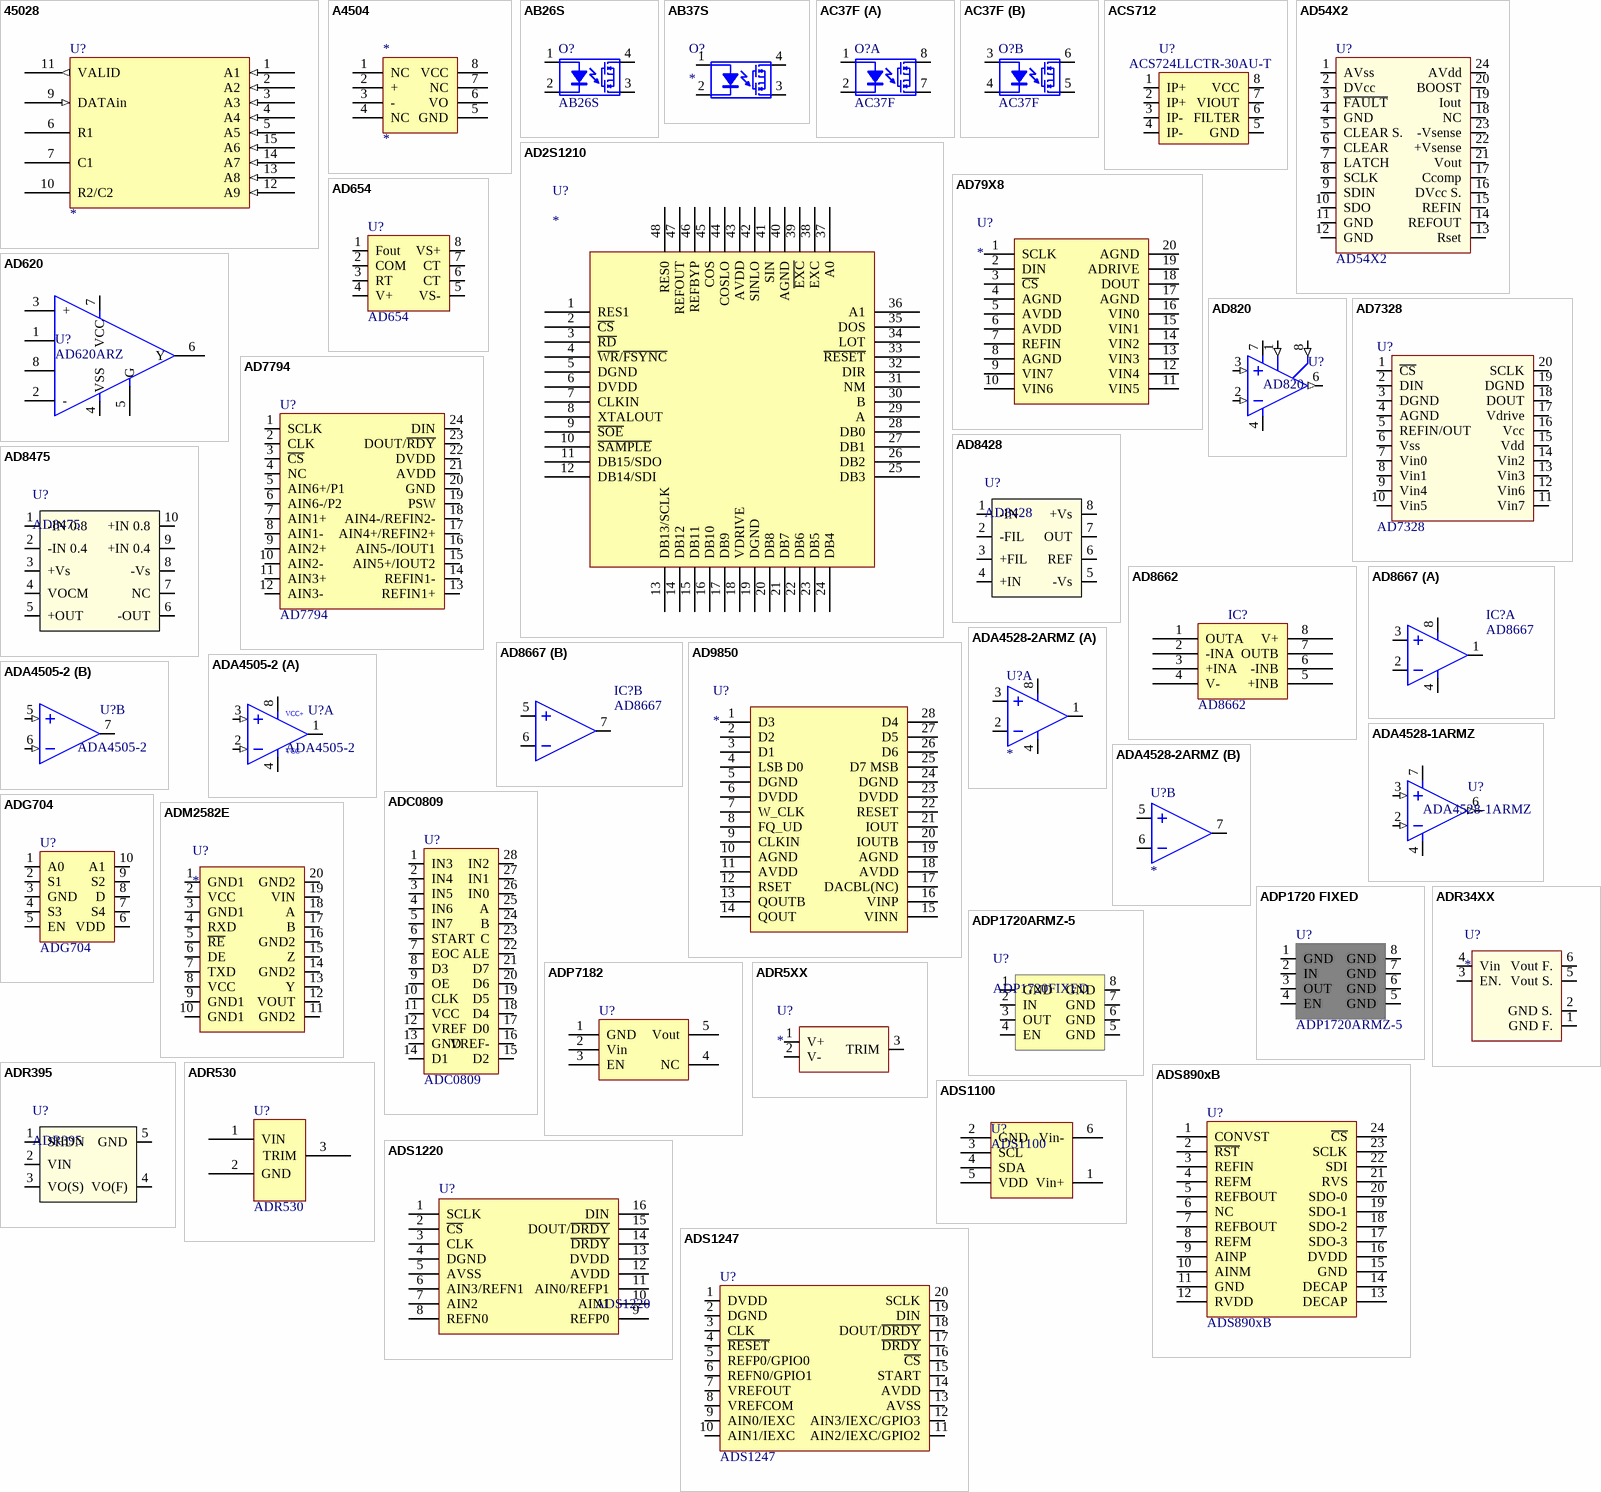
[diagram p6: symbols 45028 to ADS1247]

## 45028
designator U?
pins: 1 A1 (in), 2 A2 (in), 3 A3 (in), 4 A4 (in), 5 A5 (in), 6 R1, 7 C1, 8 GND (power) hidden to GND, 9 DATAin (in), 10 R2/C2, 11 VALID (out), 12 A9 (in), 13 A8 (in), 14 A7 (in), 15 A6 (in), 16 VCC (power) hidden to VCC

## A4504
designator *
pins: 1 NC, 2 +, 3 -, 4 NC, 5 GND, 6 VO, 7 NC, 8 VCC

## AB26S
designator O?
隔离器件
pins: 1 A, 2 K, 3, 4

## AB37S
designator O?
隔离器件
pins: 1 A, 2 K, 3, 4

## AC37F
designator O?
隔离器件
part A pins: 1 A, 2 K, 7, 8
part B pins: 3 A, 4 K, 5, 6

## ACS712
designator U?, comment ACS724LLCTR-30AU-T
ACS712ELCTR-20A
footprint SO-8 (贴片-IC)
pins: 1 IP+, 2 IP+, 3 IP-, 4 IP-, 5 GND, 6 FILTER, 7 VIOUT, 8 VCC

## AD2S1210
designator U?
数据转换器
pins: 1 RES1, 2 ~{CS}, 3 ~{RD}, 4 ~{WR}/~{FSYNC}, 5 DGND, 6 DVDD, 7 CLKIN, 8 XTALOUT, 9 ~{SOE}, 10 ~{SAMPLE}, 11 DB15/SDO, 12 DB14/SDI, 13 DB13/SCLK, 14 DB12, 15 DB11, 16 DB10, 17 DB9, 18 VDRIVE, 19 DGND, 20 DB8, 21 DB7, 22 DB6, 23 DB5, 24 DB4, 25 DB3, 26 DB2, 27 DB1, 28 DB0, 29 A, 30 B, 31 NM, 32 DIR, 33 ~{RESET}, 34 LOT, 35 DOS, 36 A1, 37 A0, 38 EXC, 39 ~{EXC}, 40 AGND, 41 SIN, 42 SINLO, 43 AVDD, 44 COSLO, 45 COS, 46 REFBYP, 47 REFOUT, 48 RES0

## AD54X2
designator U?
数据转换器(DA)
pins: 1 AVss (oc), 2 DVcc, 3 ~{FAULT}, 4 GND (power), 5 CLEAR S., 6 CLEAR, 7 LATCH, 8 SCLK, 9 SDIN, 10 SDO, 11 GND, 12 GND, 13 Rset, 14 REFOUT, 15 REFIN (power), 16 DVcc S. (power), 17 Ccomp (power), 18 NC (power), 19 Iout (power), 20 BOOST (power), 21 Vout (power), 22 +Vsense (power), 23 -Vsense (power), 24 AVdd (power)

## AD79X8
designator U?
数据转换器(AD)
pins: 1 SCLK, 2 DIN, 3 ~{CS}, 4 AGND, 5 AVDD, 6 AVDD, 7 REFIN, 8 AGND, 9 VIN7, 10 VIN6, 11 VIN5, 12 VIN4, 13 VIN3, 14 VIN2, 15 VIN1, 16 VIN0, 17 AGND, 18 DOUT, 19 ADRIVE, 20 AGND

## AD620
designator U?, comment AD620ARZ
pins: 1, 2 -, 3 +, 4 VSS, 5 G, 6 Y, 7 VCC, 8
2 alternate drawings of the same symbol

## AD654
designator U?
数据转换器
pins: 1 Fout, 2 COM, 3 RT, 4 V+, 5 VS-, 6 CT, 7 CT, 8 VS+

## AD820
designator U?
IC Amplifier
pins: 1 (in), 2 (in), 3 (in), 4 (power), 6 (out), 7 (power), 8 (in)

## AD7328
designator U?
数据转换器(AD)
pins: 1 ~{CS} (power), 2 DIN (power), 3 DGND (power), 4 AGND (power), 5 REFIN/OUT (power), 6 Vss (power), 7 Vin0 (power), 8 Vin1 (power), 9 Vin4 (power), 10 Vin5 (power), 11 Vin7 (power), 12 Vin6 (power), 13 Vin3 (power), 14 Vin2 (power), 15 Vdd (power), 16 Vcc (power), 17 Vdrive (power), 18 DOUT (power), 19 DGND (power), 20 SCLK (power)

## AD7794
designator U?
6通道、低噪声、低功耗24/16位AD
pins: 1 SCLK, 2 CLK, 3 ~{CS}, 4 NC, 5 AIN6+/P1, 6 AIN6-/P2, 7 AIN1+, 8 AIN1-, 9 AIN2+, 10 AIN2-, 11 AIN3+, 12 AIN3-, 13 REFIN1+, 14 REFIN1-, 15 AIN5+/IOUT2, 16 AIN5-/IOUT1, 17 AIN4+/REFIN2+, 18 AIN4-/REFIN2-, 19 PSW, 20 GND, 21 AVDD, 22 DVDD, 23 DOUT/~{RDY}, 24 DIN

## AD8428
designator U?
放大器
pins: 1 -IN, 2 -FIL, 3 +FIL, 4 +IN, 5 -Vs, 6 REF, 7 OUT, 8 +Vs

## AD8475
designator U?
放大器
pins: 1 -IN 0.8, 2 -IN 0.4, 3 +Vs, 4 VOCM, 5 +OUT, 6 -OUT, 7 NC, 8 -Vs, 9 +IN 0.4, 10 +IN 0.8

## AD8662
designator IC?
pins: 1 OUTA, 2 -INA, 3 +INA, 4 V-, 5 +INB, 6 -INB, 7 OUTB, 8 V+
2 alternate drawings of the same symbol

## AD8667
designator IC?
part A pins: 1, 2, 3, 4, 8
part B pins: 5, 6, 7

## AD9850
designator U?
数据转换器(DA)
pins: 1 D3, 2 D2, 3 D1, 4 LSB D0, 5 DGND, 6 DVDD, 7 W_CLK, 8 FQ_UD, 9 CLKIN, 10 AGND, 11 AVDD, 12 RSET, 13 QOUTB, 14 QOUT, 15 VINN, 16 VINP, 17 DACBL(NC), 18 AVDD, 19 AGND, 20 IOUTB, 21 IOUT, 22 RESET, 23 DVDD, 24 DGND, 25 D7 MSB, 26 D6, 27 D5, 28 D4

## ADA4505-2
designator U?
LM833
part A pins: 1 (oc), 2 (in), 3 (in), 4 (power), 8 (power)
part B pins: 5 (in), 6 (in), 7 (oc)
part A text: VCC+; VCC-

## ADA4528-1ARMZ
designator U?
pins: 2 (in), 3 (in), 4 (power), 6 (out), 7 (power)

## ADA4528-2ARMZ
designator U?
运放
part A pins: 1, 2, 3, 4, 8
part B pins: 5, 6, 7

## ADC0809
designator U?
集成块
pins: 1 IN3, 2 IN4, 3 IN5, 4 IN6, 5 IN7, 6 START, 7 EOC, 8 D3, 9 OE, 10 CLK, 11 VCC, 12 VREF, 13 GND, 14 D1, 15 D2, 16 VREF-, 17 D0, 18 D4, 19 D5, 20 D6, 21 D7, 22 ALE, 23 C, 24 B, 25 A, 26 IN0, 27 IN1, 28 IN2

## ADG704
designator U?
ADI多路模拟开关(4:1)
pins: 1 A0, 2 S1, 3 GND, 4 S3, 5 EN, 6 VDD, 7 S4, 8 D, 9 S2, 10 A1

## ADM2582E
designator U?
pins: 1 GND1, 2 VCC, 3 GND1, 4 RXD, 5 ~{RE}, 6 DE, 7 TXD, 8 VCC, 9 GND1, 10 GND1, 11 GND2, 12 VOUT, 13 Y, 14 GND2, 15 Z, 16 GND2, 17 B, 18 A, 19 VIN, 20 GND2

## ADP1720 FIXED
designator U?, comment ADP1720ARMZ-5
ADP1720 FIXED
pins: 1 GND, 2 IN, 3 OUT, 4 EN, 5 GND, 6 GND, 7 GND, 8 GND

## ADP1720ARMZ-5
designator U?, comment ADP1720FIXED
电源管理器件
pins: 1 GND, 2 IN, 3 OUT, 4 EN, 5 GND, 6 GND, 7 GND, 8 GND

## ADP7182
designator U?
pins: 1 GND, 2 Vin, 3 EN, 4 NC, 5 Vout

## ADR5XX
designator U?
电源管理器件
pins: 1 V+, 2 V-, 3 TRIM

## ADR34XX
designator U?
电源管理器件
pins: 1 GND F., 2 GND S., 3 EN., 4 Vin, 5 Vout S., 6 Vout F.

## ADR395
designator U?
电压参考
pins: 1 SHDN, 2 VIN, 3 VO(S), 4 VO(F), 5 GND

## ADR530
designator U?
电压基准
pins: 1 VIN, 2 GND, 3 TRIM

## ADS890xB
designator U?
pins: 1 CONVST, 2 ~{RST}, 3 REFIN, 4 REFM, 5 REFBOUT, 6 NC, 7 REFBOUT, 8 REFM, 9 AINP, 10 AINM, 11 GND, 12 RVDD, 13 DECAP, 14 DECAP, 15 GND, 16 DVDD, 17 SDO-3, 18 SDO-2, 19 SDO-1, 20 SDO-0, 21 RVS, 22 SDI, 23 SCLK, 24 ~{CS}

## ADS1100
designator U?
数据转换器(AD)
pins: 1 Vin+, 2 GND, 3 SCL, 4 SDA, 5 VDD, 6 Vin-

## ADS1220
designator U?
放大器
pins: 1 SCLK, 2 ~{CS}, 3 CLK, 4 DGND, 5 AVSS, 6 AIN3/REFN1, 7 AIN2, 8 REFN0, 9 REFP0, 10 AIN1, 11 AIN0/REFP1, 12 AVDD, 13 DVDD, 14 ~{DRDY}, 15 DOUT/~{DRDY}, 16 DIN

## ADS1247
designator U?
24位模拟-数字温度传感器的转换器
pins: 1 DVDD, 2 DGND, 3 CLK, 4 ~{RESET}, 5 REFP0/GPIO0, 6 REFN0/GPIO1, 7 VREFOUT, 8 VREFCOM, 9 AIN0/IEXC, 10 AIN1/IEXC, 11 AIN2/IEXC/GPIO2, 12 AIN3/IEXC/GPIO3, 13 AVSS, 14 AVDD, 15 START, 16 ~{CS}, 17 ~{DRDY}, 18 DOUT/~{DRDY}, 19 DIN, 20 SCLK

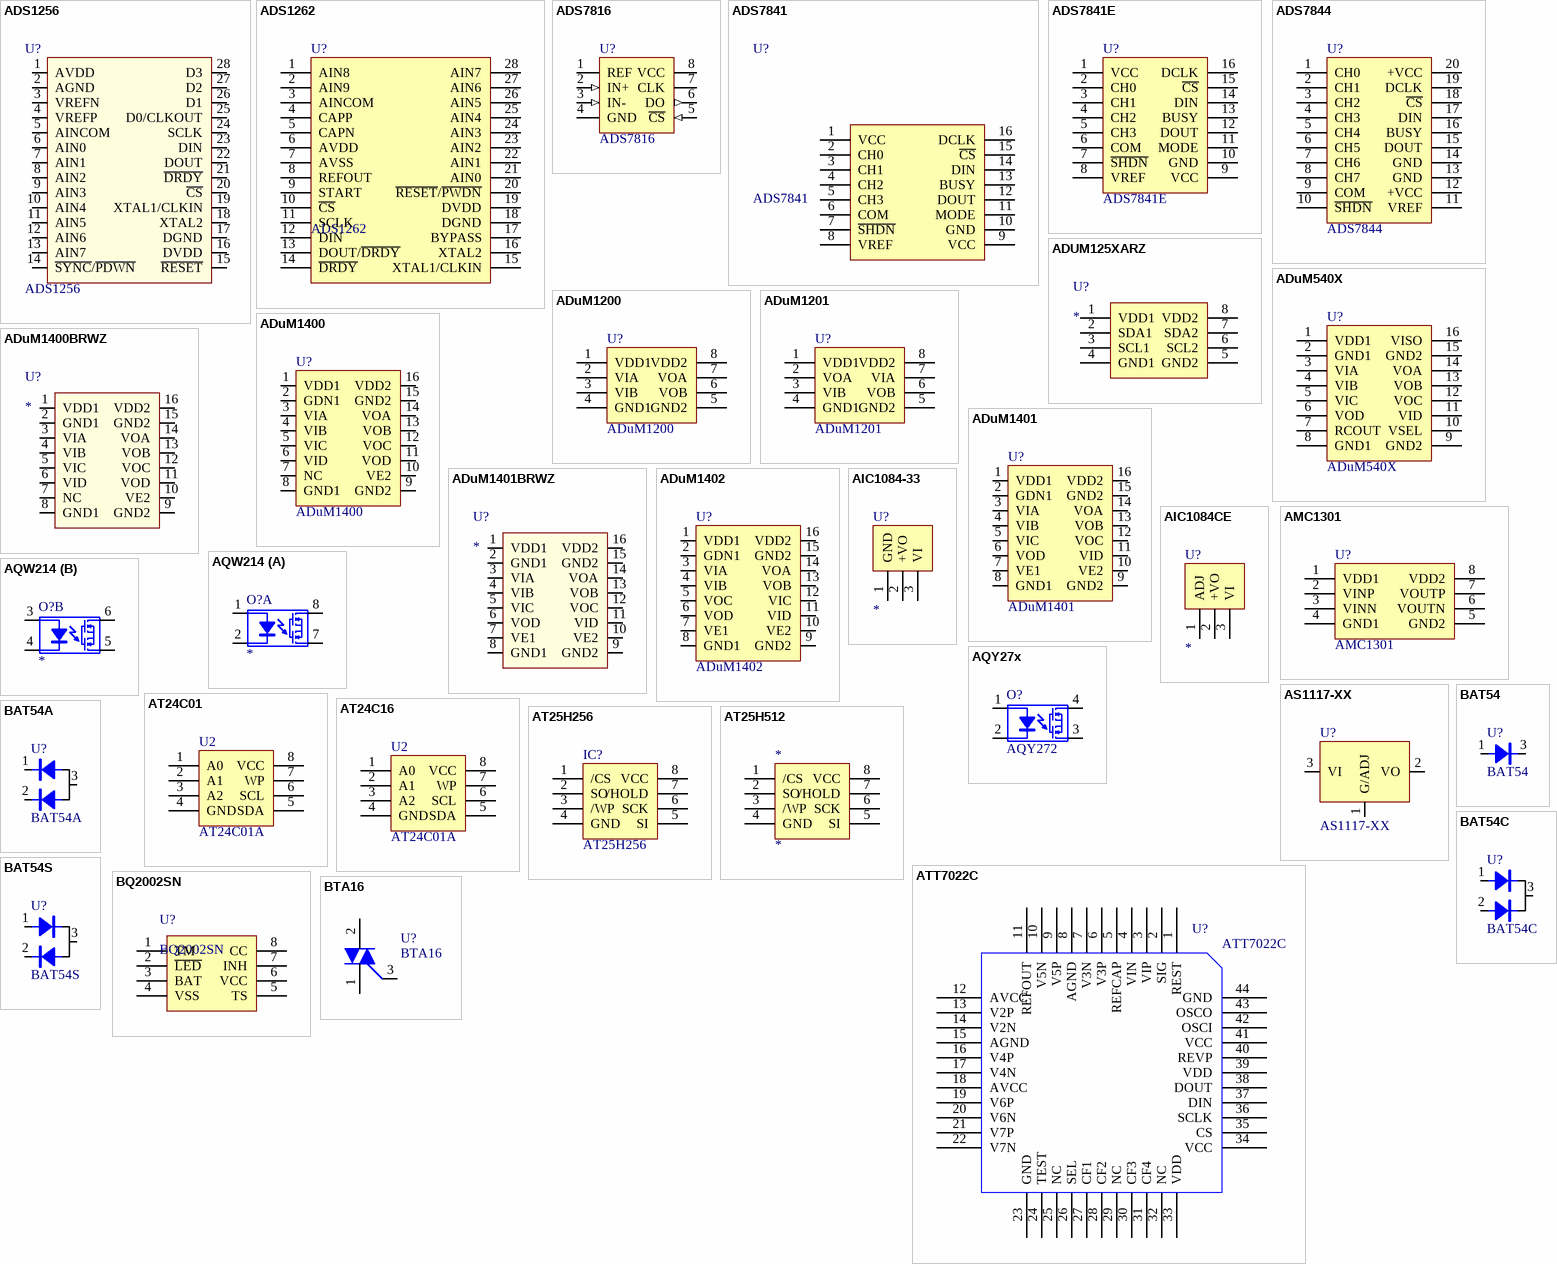
[diagram p7: symbols ADS1256 to BTA16]

## ADS1256
designator U?
数据转换器(AD)
pins: 1 AVDD, 2 AGND, 3 VREFN, 4 VREFP (power), 5 AINCOM, 6 AIN0, 7 AIN1, 8 AIN2, 9 AIN3, 10 AIN4, 11 AIN5, 12 AIN6, 13 AIN7, 14 ~{SYNC}/~{PDWN}, 15 ~{RESET} (power), 16 DVDD (power), 17 DGND, 18 XTAL2, 19 XTAL1/CLKIN, 20 ~{CS}, 21 ~{DRDY}, 22 DOUT, 23 DIN, 24 SCLK, 25 D0/CLKOUT, 26 D1, 27 D2, 28 D3

## ADS1262
designator U?
32位ADC
pins: 1 AIN8, 2 AIN9, 3 AINCOM, 4 CAPP, 5 CAPN, 6 AVDD, 7 AVSS, 8 REFOUT, 9 START, 10 ~{CS}, 11 SCLK, 12 DIN, 13 DOUT/~{DRDY}, 14 ~{DRDY}, 15 XTAL1/CLKIN, 16 XTAL2, 17 BYPASS, 18 DGND, 19 DVDD, 20 ~{RESET}/~{PWDN}, 21 AIN0, 22 AIN1, 23 AIN2, 24 AIN3, 25 AIN4, 26 AIN5, 27 AIN6, 28 AIN7

## ADS7816
designator U?
集成块
pins: 1 REF (oc), 2 IN+ (in), 3 IN- (in), 4 GND (power), 5 ~{CS} (in), 6 DO (out), 7 CLK, 8 VCC (power)

## ADS7841
designator U?
数据转换器(AD)
pins: 1 VCC, 2 CH0, 3 CH1, 4 CH2, 5 CH3, 6 COM, 7 ~{SHDN}, 8 VREF, 9 VCC, 10 GND, 11 MODE, 12 DOUT, 13 BUSY, 14 DIN, 15 ~{CS}, 16 DCLK

## ADS7841E
designator U?
集成块
pins: 1 VCC (oc), 2 CH0, 3 CH1, 4 CH2 (power), 5 CH3, 6 COM, 7 ~{SHDN}, 8 VREF (power), 9 VCC (oc), 10 GND, 11 MODE, 12 DOUT (power), 13 BUSY, 14 DIN, 15 ~{CS}, 16 DCLK (power)

## ADS7844
designator U?
footprint qsop-20
pins: 1 CH0, 2 CH1, 3 CH2, 4 CH3, 5 CH4, 6 CH5, 7 CH6, 8 CH7, 9 COM, 10 ~{SHDN}, 11 VREF, 12 +VCC, 13 GND, 14 GND, 15 DOUT, 16 BUSY, 17 DIN, 18 ~{CS}, 19 DCLK, 20 +VCC

## ADUM125XARZ
designator U?
隔离器件
pins: 1 VDD1, 2 SDA1, 3 SCL1, 4 GND1, 5 GND2, 6 SCL2, 7 SDA2, 8 VDD2

## ADuM540X
designator U?
隔离器件
pins: 1 VDD1, 2 GND1, 3 VIA, 4 VIB, 5 VIC, 6 VOD, 7 RCOUT, 8 GND1, 9 GND2, 10 VSEL, 11 VID, 12 VOC, 13 VOB, 14 VOA, 15 GND2, 16 VISO

## ADuM1200
designator U?
ADI高速隔离-2路
pins: 1 VDD1, 2 VIA, 3 VIB, 4 GND1, 5 GND2, 6 VOB, 7 VOA, 8 VDD2

## ADuM1201
designator U?
ADI高速隔离-2路
pins: 1 VDD1, 2 VOA, 3 VIB, 4 GND1, 5 GND2, 6 VOB, 7 VIA, 8 VDD2

## ADuM1400
designator U?
ADI高速隔离-4路
pins: 1 VDD1, 2 GDN1, 3 VIA, 4 VIB, 5 VIC, 6 VID, 7 NC, 8 GND1, 9 GND2, 10 VE2, 11 VOD, 12 VOC, 13 VOB, 14 VOA, 15 GND2, 16 VDD2

## ADuM1400BRWZ
designator U?
隔离器件
pins: 1 VDD1, 2 GND1, 3 VIA, 4 VIB, 5 VIC (power), 6 VID (power), 7 NC (power), 8 GND1 (power), 9 GND2 (power), 10 VE2 (power), 11 VOD (power), 12 VOC (power), 13 VOB (power), 14 VOA (power), 15 GND2 (power), 16 VDD2 (power)

## ADuM1401
designator U?
ADI高速隔离-4路
pins: 1 VDD1, 2 GDN1, 3 VIA, 4 VIB, 5 VIC, 6 VOD, 7 VE1, 8 GND1, 9 GND2, 10 VE2, 11 VID, 12 VOC, 13 VOB, 14 VOA, 15 GND2, 16 VDD2

## ADuM1401BRWZ
designator U?
隔离器件
pins: 1 VDD1, 2 GND1, 3 VIA, 4 VIB, 5 VIC (power), 6 VOD (power), 7 VE1 (power), 8 GND1 (power), 9 GND2 (power), 10 VE2 (power), 11 VID (power), 12 VOC (power), 13 VOB (power), 14 VOA (power), 15 GND2 (power), 16 VDD2 (power)

## ADuM1402
designator U?
ADI高速隔离-4路
pins: 1 VDD1, 2 GDN1, 3 VIA, 4 VIB, 5 VOC, 6 VOD, 7 VE1, 8 GND1, 9 GND2, 10 VE2, 11 VID, 12 VIC, 13 VOB, 14 VOA, 15 GND2, 16 VDD2

## AIC1084-33
designator U?
集成稳压块
pins: 1 GND, 2 +VO, 3 VI

## AIC1084CE
designator U?
集成稳压块
pins: 1 ADJ, 2 +VO, 3 VI

## AMC1301
designator U?
放大器
pins: 1 VDD1, 2 VINP, 3 VINN, 4 GND1, 5 GND2, 6 VOUTN, 7 VOUTP, 8 VDD2

## AQW214
designator O?
CMOS 继电器
part A pins: 1 A, 2 K, 7, 8
part B pins: 3 A, 4 K, 5, 6

## AQY27x
designator O?, comment AQY272
松下光MOS
pins: 1 A, 2 K, 3, 4

## AS1117-XX
designator U?
电源管理器件
pins: 1 G/ADJ, 2 VO, 3 VI

## AT24C01
designator U2, comment AT24C01A
集成块
pins: 1 A0, 2 A1, 3 A2, 4 GND, 5 SDA, 6 SCL, 7 WP, 8 VCC

## AT24C16
designator U2, comment AT24C01A
集成块
pins: 1 A0, 2 A1, 3 A2, 4 GND, 5 SDA, 6 SCL, 7 WP, 8 VCC

## AT25H256
designator IC?
pins: 1 /CS, 2 SO, 3 /WP, 4 GND, 5 SI, 6 SCK, 7 /HOLD, 8 VCC
2 alternate drawings of the same symbol

## AT25H512
designator *
pins: 1 /CS, 2 SO, 3 /WP, 4 GND, 5 SI, 6 SCK, 7 /HOLD, 8 VCC

## ATT7022C
designator U?
电力计量芯片
footprint ATT7022C
pins: 1 REST, 2 SIG, 3 VIP, 4 VIN, 5 REFCAP, 6 V3P, 7 V3N, 8 AGND, 9 V5P, 10 V5N, 11 REFOUT, 12 AVCC, 13 V2P, 14 V2N, 15 AGND, 16 V4P, 17 V4N, 18 AVCC, 19 V6P, 20 V6N, 21 V7P, 22 V7N, 23 GND, 24 TEST, 25 NC, 26 SEL, 27 CF1, 28 CF2, 29 NC, 30 CF3, 31 CF4, 32 NC, 33 VDD, 34 VCC, 35 CS, 36 SCLK, 37 DIN, 38 DOUT, 39 VDD, 40 REVP, 41 VCC, 42 OSCI, 43 OSCO, 44 GND

## BAT54
designator U?
SMALL SIGNAL SCHOTTKY DIODE
pins: 1 A, 3 K

## BAT54A
designator U?
SMALL SIGNAL SCHOTTKY DIODE
pins: 1 K, 2 K, 3 A

## BAT54C
designator U?
SMALL SIGNAL SCHOTTKY DIODE
pins: 1 A, 2 A, 3 K

## BAT54S
designator U?
SMALL SIGNAL SCHOTTKY DIODE
pins: 1 A, 2 K, 3 K/A

## BQ2002SN
designator U?
pins: 1 TM, 2 ~{LED}, 3 BAT, 4 VSS, 5 TS, 6 VCC, 7 INH, 8 CC

## BTA16
designator U?
可控硅
pins: 1 T1, 2 T2, 3 G

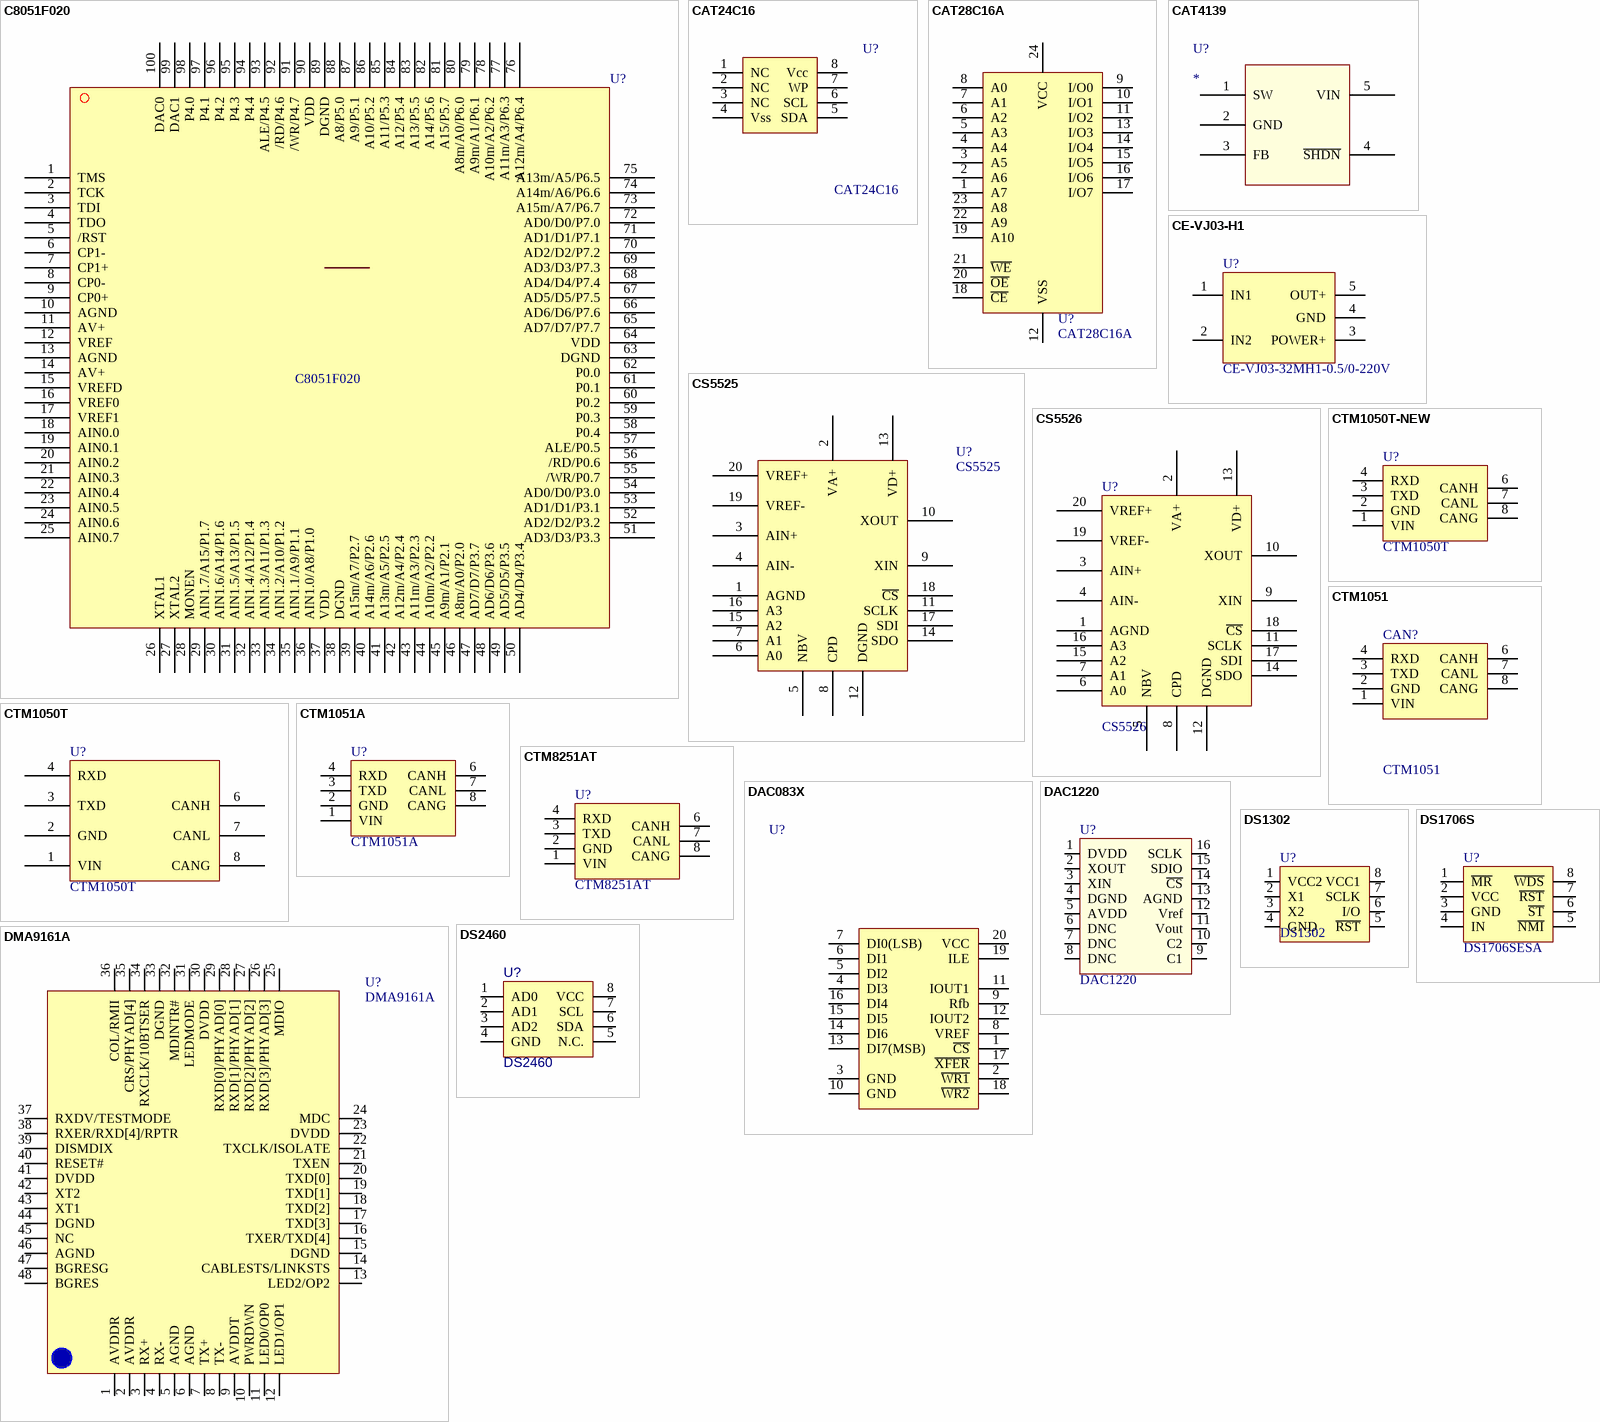
[diagram p8: symbols C8051F020 to DS2460]

## C8051F020
designator U?
pins: 1 TMS, 2 TCK, 3 TDI, 4 TDO, 5 /RST, 6 CP1-, 7 CP1+, 8 CP0-, 9 CP0+, 10 AGND, 11 AV+, 12 VREF, 13 AGND, 14 AV+, 15 VREFD, 16 VREF0, 17 VREF1, 18 AIN0.0, 19 AIN0.1, 20 AIN0.2, 21 AIN0.3, 22 AIN0.4, 23 AIN0.5, 24 AIN0.6, 25 AIN0.7, 26 XTAL1, 27 XTAL2, 28 MONEN, 29 AIN1.7/A15/P1.7, 30 AIN1.6/A14/P1.6, 31 AIN1.5/A13/P1.5, 32 AIN1.4/A12/P1.4, 33 AIN1.3/A11/P1.3, 34 AIN1.2/A10/P1.2, 35 AIN1.1/A9/P1.1, 36 AIN1.0/A8/P1.0, 37 VDD, 38 DGND, 39 A15m/A7/P2.7, 40 A14m/A6/P2.6, 41 A13m/A5/P2.5, 42 A12m/A4/P2.4, 43 A11m/A3/P2.3, 44 A10m/A2/P2.2, 45 A9m/A1/P2.1, 46 A8m/A0/P2.0, 47 AD7/D7/P3.7, 48 AD6/D6/P3.6, 49 AD5/D5/P3.5, 50 AD4/D4/P3.4, 51 AD3/D3/P3.3, 52 AD2/D2/P3.2, 53 AD1/D1/P3.1, 54 AD0/D0/P3.0, 55 /WR/P0.7, 56 /RD/P0.6, 57 ALE/P0.5, 58 P0.4, 59 P0.3, 60 P0.2, 61 P0.1, 62 P0.0, 63 DGND, 64 VDD, 65 AD7/D7/P7.7, 66 AD6/D6/P7.6, 67 AD5/D5/P7.5, 68 AD4/D4/P7.4, 69 AD3/D3/P7.3, 70 AD2/D2/P7.2, 71 AD1/D1/P7.1, 72 AD0/D0/P7.0, 73 A15m/A7/P6.7, 74 A14m/A6/P6.6, 75 A13m/A5/P6.5, 76 A12m/A4/P6.4, 77 A11m/A3/P6.3, 78 A10m/A2/P6.2, 79 A9m/A1/P6.1, 80 A8m/A0/P6.0, 81 A15/P5.7, 82 A14/P5.6, 83 A13/P5.5, 84 A12/P5.4, 85 A11/P5.3, 86 A10/P5.2, 87 A9/P5.1, 88 A8/P5.0, 89 DGND, 90 VDD, 91 /WR/P4.7, 92 /RD/P4.6, 93 ALE/P4.5, 94 P4.4, 95 P4.3, 96 P4.2, 97 P4.1, 98 P4.0, 99 DAC1, 100 DAC0

## CAT24C16
designator U?
存储器件
pins: 1 NC, 2 NC, 3 NC, 4 Vss, 5 SDA, 6 SCL, 7 WP, 8 Vcc
2 alternate drawings of the same symbol

## CAT28C16A
designator U?
pins: 1 A7, 2 A6, 3 A5, 4 A4, 5 A3, 6 A2, 7 A1, 8 A0, 9 I/O0, 10 I/O1, 11 I/O2, 12 VSS, 13 I/O3, 14 I/O4, 15 I/O5, 16 I/O6, 17 I/O7, 18 ~{CE}, 19 A10, 20 ~{OE}, 21 ~{WE}, 22 A9, 23 A8, 24 VCC

## CAT4139
designator U?
电源管理器件
pins: 1 SW, 2 GND, 3 FB, 4 ~{SHDN}, 5 VIN

## CE-VJ03-H1
designator U?, comment CE-VJ03-32MH1-0.5/0-220V
footprint CE-VJ03-H1
pins: 1 IN1, 2 IN2, 3 POWER+, 4 GND, 5 OUT+

## CS5525
designator U?
AD转换芯片
pins: 1 AGND, 2 VA+ (power), 3 AIN+, 4 AIN-, 5 NBV (power), 6 A0, 7 A1, 8 CPD, 9 XIN, 10 XOUT, 11 SCLK, 12 DGND, 13 VD+, 14 SDO, 15 A2, 16 A3, 17 SDI, 18 ~{CS}, 19 VREF-, 20 VREF+

## CS5526
designator U?
AD转换芯片
pins: 1 AGND, 2 VA+ (power), 3 AIN+, 4 AIN-, 5 NBV (power), 6 A0, 7 A1, 8 CPD, 9 XIN, 10 XOUT, 11 SCLK, 12 DGND, 13 VD+, 14 SDO, 15 A2, 16 A3, 17 SDI, 18 ~{CS}, 19 VREF-, 20 VREF+

## CTM1050T
designator U?
CAN收发模块
pins: 1 VIN, 2 GND, 3 TXD, 4 RXD, 6 CANH, 7 CANL, 8 CANG

## CTM1050T-NEW
designator U?, comment CTM1050T
CAN收发模块
pins: 1 VIN, 2 GND, 3 TXD, 4 RXD, 6 CANH, 7 CANL, 8 CANG

## CTM1051
designator CAN?
pins: 1 VIN, 2 GND, 3 TXD, 4 RXD, 6 CANH, 7 CANL, 8 CANG

## CTM1051A
designator U?
3.3V_CAN收发模块(ZLG)2013.4.22
pins: 1 VIN, 2 GND, 3 TXD, 4 RXD, 6 CANH, 7 CANL, 8 CANG

## CTM8251AT
designator U?
3.3V_CAN收发模块
pins: 1 VIN, 2 GND, 3 TXD, 4 RXD, 6 CANH, 7 CANL, 8 CANG

## DAC083X
designator U?
数据转换器(DA)
pins: 1 ~{CS}, 2 ~{WR1}, 3 GND, 4 DI3, 5 DI2, 6 DI1, 7 DI0(LSB), 8 VREF, 9 Rfb, 10 GND, 11 IOUT1, 12 IOUT2, 13 DI7(MSB), 14 DI6, 15 DI5, 16 DI4, 17 ~{XFER}, 18 ~{WR2}, 19 ILE, 20 VCC

## DAC1220
designator U?
数据转换器(DA)
pins: 1 DVDD, 2 XOUT, 3 XIN, 4 DGND, 5 AVDD, 6 DNC, 7 DNC, 8 DNC, 9 C1, 10 C2, 11 Vout, 12 Vref, 13 AGND, 14 ~{CS}, 15 SDIO, 16 SCLK

## DMA9161A
designator U?
pins: 1 AVDDR, 2 AVDDR, 3 RX+, 4 RX-, 5 AGND, 6 AGND, 7 TX+, 8 TX-, 9 AVDDT, 10 PWRDWN, 11 LED0/OP0, 12 LED1/OP1, 13 LED2/OP2, 14 CABLESTS/LINKSTS, 15 DGND, 16 TXER/TXD[4], 17 TXD[3], 18 TXD[2], 19 TXD[1], 20 TXD[0], 21 TXEN, 22 TXCLK/ISOLATE, 23 DVDD, 24 MDC, 25 MDIO, 26 RXD[3]/PHYAD[3], 27 RXD[2]/PHYAD[2], 28 RXD[1]/PHYAD[1], 29 RXD[0]/PHYAD[0], 30 DVDD, 31 LEDMODE, 32 MDINTR#, 33 DGND, 34 RXCLK/10BTSER, 35 CRS/PHYAD[4], 36 COL/RMII, 37 RXDV/TESTMODE, 38 RXER/RXD[4]/RPTR, 39 DISMDIX, 40 RESET#, 41 DVDD, 42 XT2, 43 XT1, 44 DGND, 45 NC, 46 AGND, 47 BGRESG, 48 BGRES

## DS1302
designator U?
实时时钟芯片
pins: 1 VCC2, 2 X1, 3 X2, 4 GND, 5 ~{RST}, 6 I/O, 7 SCLK, 8 VCC1

## DS1706S
designator U?, comment DS1706SESA
TI复位芯片,可替代SP706S_2.93V
pins: 1 ~{MR}, 2 VCC, 3 GND, 4 IN, 5 ~{NMI}, 6 ~{ST}, 7 ~{RST}, 8 ~{WDS}

## DS2460
designator U?
带有 EEPROM 的SHA-1 协处理器
pins: 1 AD0, 2 AD1, 3 AD2, 4 GND, 5 N.C., 6 SDA, 7 SCL, 8 VCC
2 alternate drawings of the same symbol

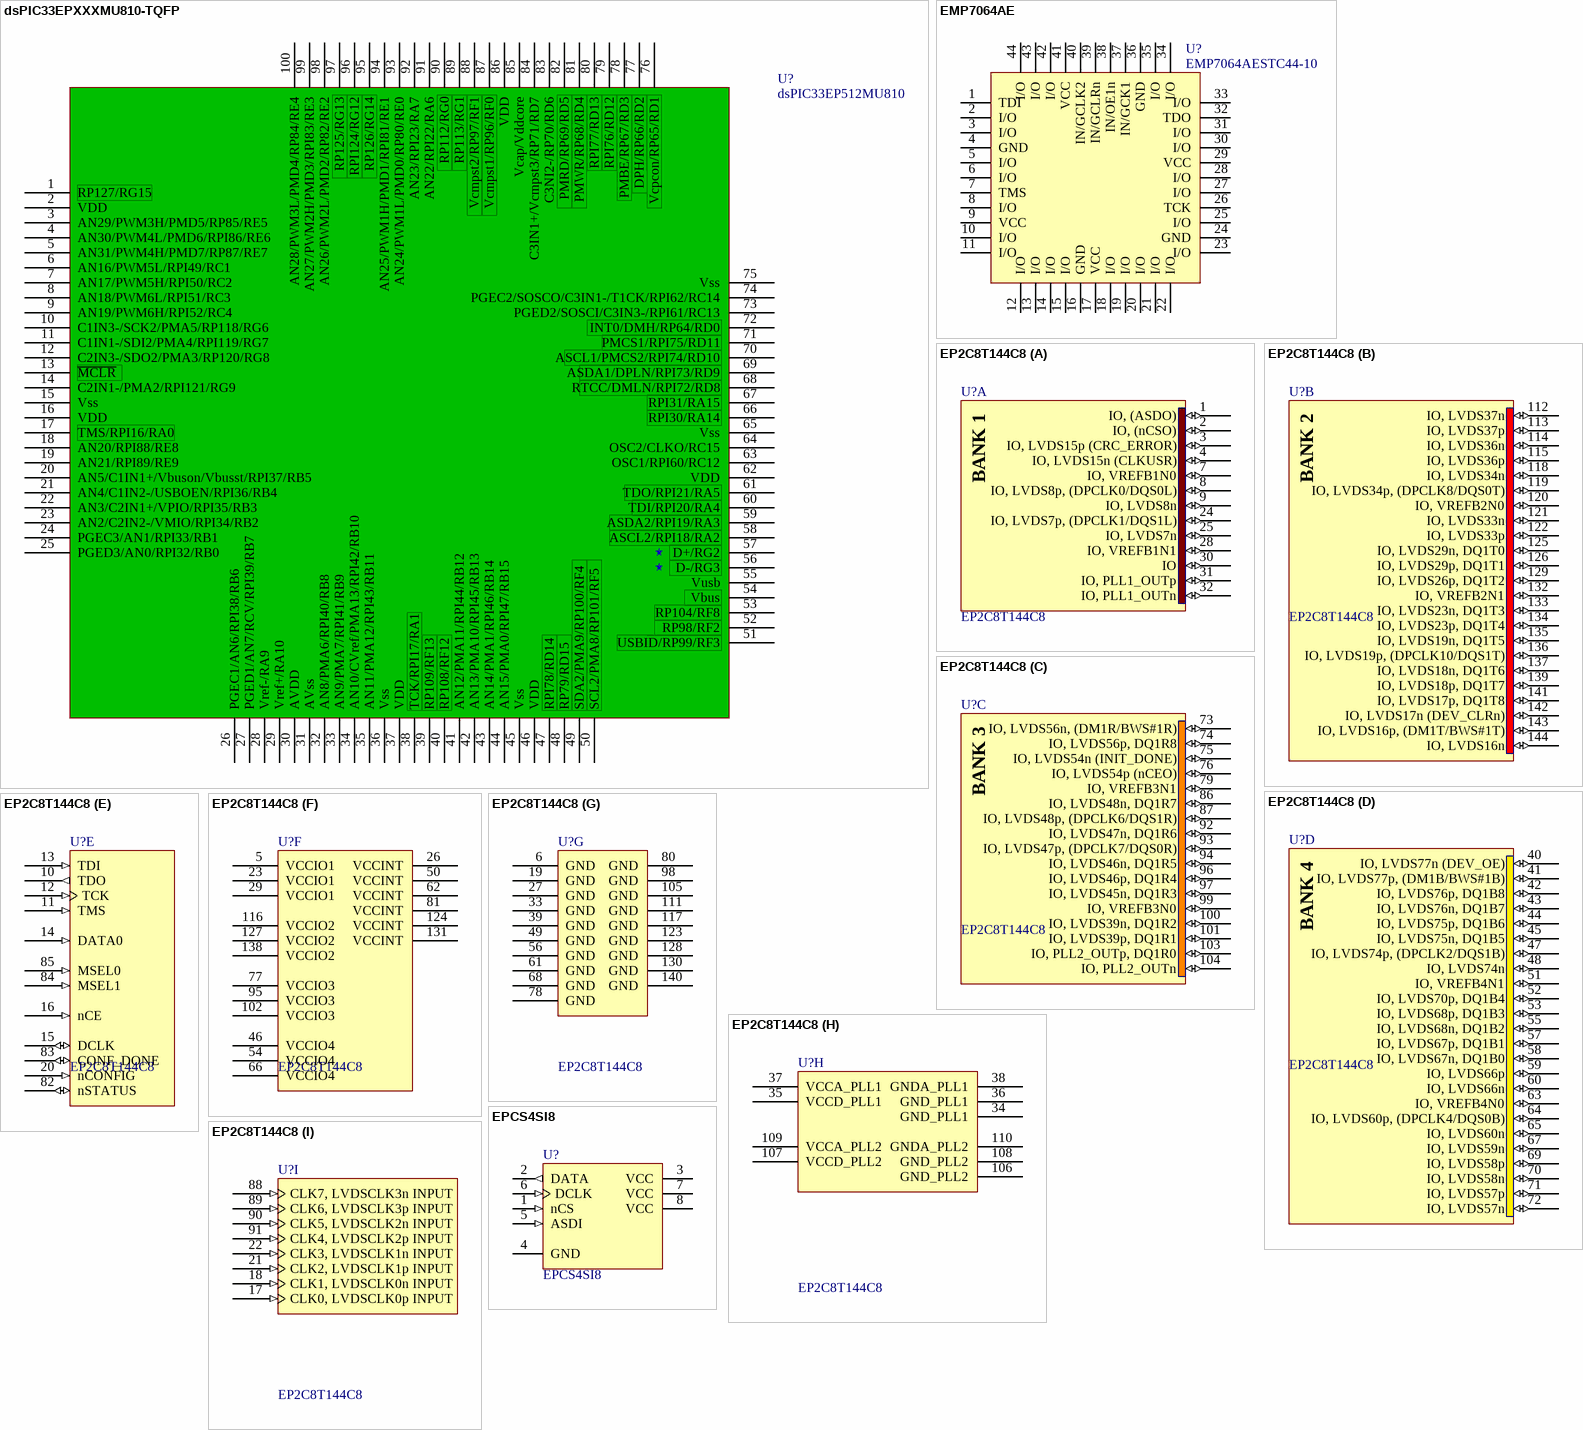
[diagram p9: symbols dsPIC33EPXXXMU810-TQFP to EPCS4SI8]